# Altium schematic symbol library MuhammetLib.SchLib: 392 symbols (part 2 of 4)
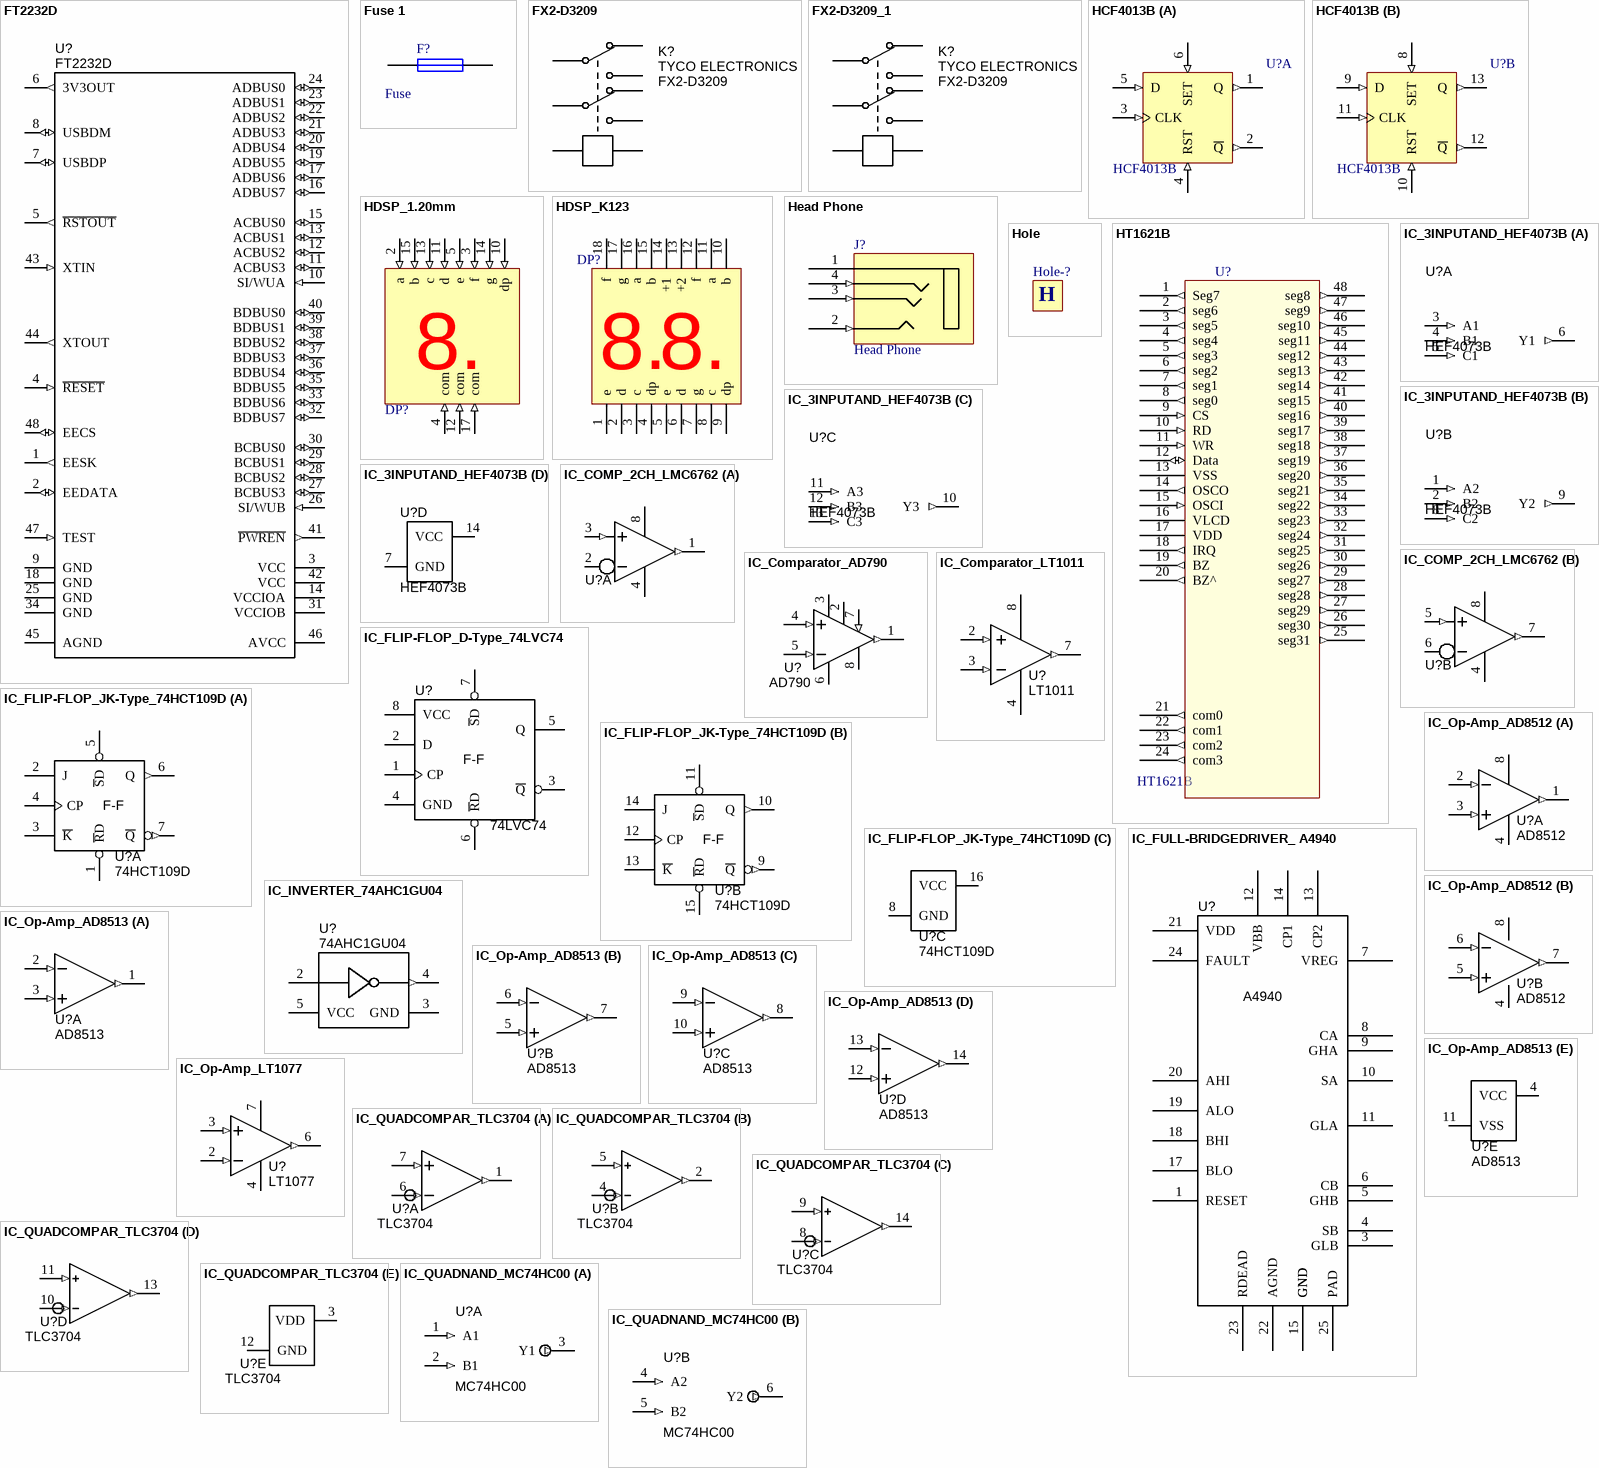
[diagram p13: symbols FT2232D to IC_QUADNAND_MC74HC00]

## IC_FLIP-FLOP_D-Type_74LVC74
designator U?, comment 74LVC74
IC Flip-Flop D-type TSSOP-8 SMD; Manufacturer 1: NXP Semiconductors; Manufacturer Part Number 1: 74LVC2G74DP,125; Value: 74LVC74; Supplier 1: Digi-Key; Supplier Part Number 1: 568-7681-1-ND; Package / Case: 8-TSSOP (0.118", 3.00mm Width)
footprint TSSOP65P400X110-8N (TSSOP, 8 Leads, Body 3.1x3.1mm (max), lead span 4.0mm, Pitch 0.65mm, IPC Medium Density)
pins: 1 CP, 2 D, 3 ~{Q}, 4 GND, 5 Q, 6 ~{R}D, 7 ~{S}D, 8 VCC
text: F-F

## IC_FLIP-FLOP_JK-Type_74HCT109D
designator U?, comment 74HCT109D
IC Flip-Flop JK-type SOIC-16 SMD; Manufacturer 1: NXP Semiconductors; Manufacturer Part Number 1: 74HCT109D,653; Value: 74HCT109D; Package / Case: 16-SOIC (0.154", 3.90mm Width); ComponentLink1URL: http://www.nxp.com/documents/data_sheet/74HC_HCT109_CNV.pdf; ComponentLink1Description: 74HCT109D datasheet; Supplier 1: Digi-Key; Supplier Part Number 1: 568-4577-1-ND
footprint SOIC127P600X175-16AN (SOIC, 1.27mm pitch, 16 pin, Body 9.9x3.90mm)
part A pins: 1 ~{R}D, 2 J, 3 ~{K}, 4 CP, 5 ~{S}D, 6 Q (out), 7 ~{Q} (out)
part B pins: 9 ~{Q} (out), 10 Q (out), 11 ~{S}D, 12 CP, 13 ~{K}, 14 J, 15 ~{R}D
part C pins: 8 GND (power), 16 VCC (power)
part A text: F-F
part B text: F-F

## IC_FULL-BRIDGEDRIVER_ A4940
designator U?, comment A4940
24-pin TSSOP Automotive Full Bridge MOSFET Driver; Manufacturer Part Number 1: A4940KLPTR-T; Manufacturer 1: Allegro Microsystems Inc; Input Type: Non-Inverting; Voltage - Supply: 5.5 V ~ 50 V; Supplier 1: Digi-Key; Package / Case: 24-TSSOP (0.173", 4.40mm Width) Exposed Pad; Supplier Part Number 1: 620-1319-1-ND; ComponentLink1URL: http://www.allegromicro.com/en/Products/Part_Numbers/4940/4940.pdf; ComponentLink1Description: A4940 Datasheet
footprint SOP65P640X110-25N (TSSOP, 24-Leads, Body 7.9x4.5mm (max), Pitch 0.65mm, IPC Medium Density; JEDEC MO-153)
pins: 1 RESET "reset input", 2 GND (power) "ground", 3 GLB "low-side gate drive B", 4 SB "load connection B", 5 GHB "high-side gate drive B", 6 CB "bootstrap capacitor B", 7 VREG "regulated 13V ouput", 8 CA "bootstrap capacitor A", 9 GHA "high-side gate drive A", 10 SA "load connection A", 11 GLA "low-side gate drive A", 12 VBB (power) "main supply", 13 CP2 "pump capacitor", 14 CP1 "pump capacitor", 15 GND (power) "ground", 16 GND (power) "ground", 17 BLO "control input B low side", 18 BHI "control input B high side", 19 ALO "control input A low side", 20 AHI "control input A high side", 21 VDD (power) "logic supply", 22 AGND (power) "ground reference", 23 RDEAD "dead time setting input", 24 FAULT "fault output", 25 PAD (power) "exposed die pad"

## IC_INVERTER_74AHC1GU04
designator U?, comment 74AHC1GU04
IC Inverter SOT353 SMD; Manufacturer 1: NXP Semiconductors; Manufacturer Part Number 1: 74AHC1GU04GW,125; Voltage - Supply: 2 V ~ 5.5 V; Package / Case: 6-TSSOP (5 Lead), SC-88A, SOT-353; ComponentLink1URL: http://www.nxp.com/documents/data_sheet/74AHC1GU04.pdf; ComponentLink1Description: 74AHC1GU04 datasheet; Supplier 1: Digi-Key; Supplier Part Number 1: 568-4825-1-ND
footprint SOT353 (Small outline 2.1mm L x 1.25mm W x 1mm H; 5LD SC-70; SC-88A)
pins: 2 A, 3 GND (power), 4 Y (out), 5 VCC (power)

## IC_Op-Amp_AD8512
designator U?, comment AD8512
IC SMD Low Cost Op Amp SOIC-8; Manufacturer 1: Analog Devices Inc; Manufacturer Part Number 1: AD8512BRZ; Voltage - Supply: 2.7 V ~ 16 V, ±1.35 V ~ 8 V; Package / Case: 8-SOIC (0.154", 3.90mm Width); Supplier 1: Digi-Key; Supplier Part Number 1: AD8512BRZ-ND
footprint SOIC127P600X175-8AN (SOIC, 8-Leads, Body 4.9x3.9mm, Pitch 1.27mm, IPC Medium Density)
pins on every part: 4 V- (power), 8 V+ (power)
part A pins: 1 OUT (out), 2 IN- (in), 3 IN+ (in)
part B pins: 5 IN+ (in), 6 IN- (in), 7 OUT (out)

## IC_Op-Amp_AD8513
designator U?, comment AD8513
IC Op Amp JFET 8MHz Quad TSSOP-14 SMD; Manufacturer 1: Analog Devices Inc; Manufacturer Part Number 1: AD8513ARUZ; Voltage - Supply, Single/Dual (±): ±4.5 V ~ 18 V; Package / Case: 14-TSSOP (0.173", 4.40mm Width); Supplier 1: Digi-Key; Supplier Part Number 1: AD8513ARUZ-ND
footprint TSSOP65P640X120-14N (TSSOP, 14-Leads, Body 5.0x4.5mm (max), Pitch 0.65mm, IPC Medium Density)
part A pins: 1 OUT (out), 2 IN- (in), 3 IN+ (in)
part B pins: 5 IN+ (in), 6 IN- (in), 7 OUT (out)
part C pins: 8 OUT (out), 9 IN- (in), 10 IN+ (in)
part D pins: 12 IN+ (in), 13 IN- (in), 14 OUT (out)
part E pins: 4 VCC (power), 11 VSS (power)

## IC_Op-Amp_LT1077
designator U?, comment LT1077
IC SMD Op Amp Precision Micropower SOIC-8; Manufacturer 1: Linear Technology; Manufacturer Part Number 1: LT1077IS8#PBF; Voltage - Supply: 2.2 V ~ 30 V, ±1.1 V ~ 15 V; Gain Bandwidth Product: 230kHz; Package / Case: 8-SOIC (0.154", 3.90mm Width); Supplier 1: Digi-Key; Supplier Part Number 1: LT1077IS8#PBF-ND
footprint SOIC127P600X175-8AN (SOIC, 8-Leads, Body 4.9x3.9mm, Pitch 1.27mm, IPC Medium Density)
pins: 2 IN- (in), 3 IN+ (in), 4 V- (power), 6 OUT (out), 7 V+ (power)

## IC_QUADCOMPAR_TLC3704
designator U?, comment TLC3704
IC SMD Quad Comparator SOIC-14; Manufacturer 1: Texas Instruments; Manufacturer Part Number 1: TLC3704QDRG4Q1; Voltage - Supply: 2.7 V ~ 16 V, ±1.35 V ~ 8 V; Package / Case: 14-SOIC (0.154", 3.90mm Width); Supplier 1: Digi-Key; Supplier Part Number 1: 296-23711-1-ND
footprint SOIC127P600X175-14AN (SOIC, 1.27mm pitch, 14 pin, Body 8.65x3.90mm)
part A pins: 1 1OUT (out), 6 1IN - (in), 7 1IN + (in)
part B pins: 2 2OUT (out), 4 2IN - (in), 5 2IN + (in)
part C pins: 8 3IN - (in), 9 3IN+ (in), 14 3OUT (out)
part D pins: 10 4IN - (in), 11 4IN + (in), 13 4OUT (out)
part E pins: 3 VDD (power), 12 GND (power)

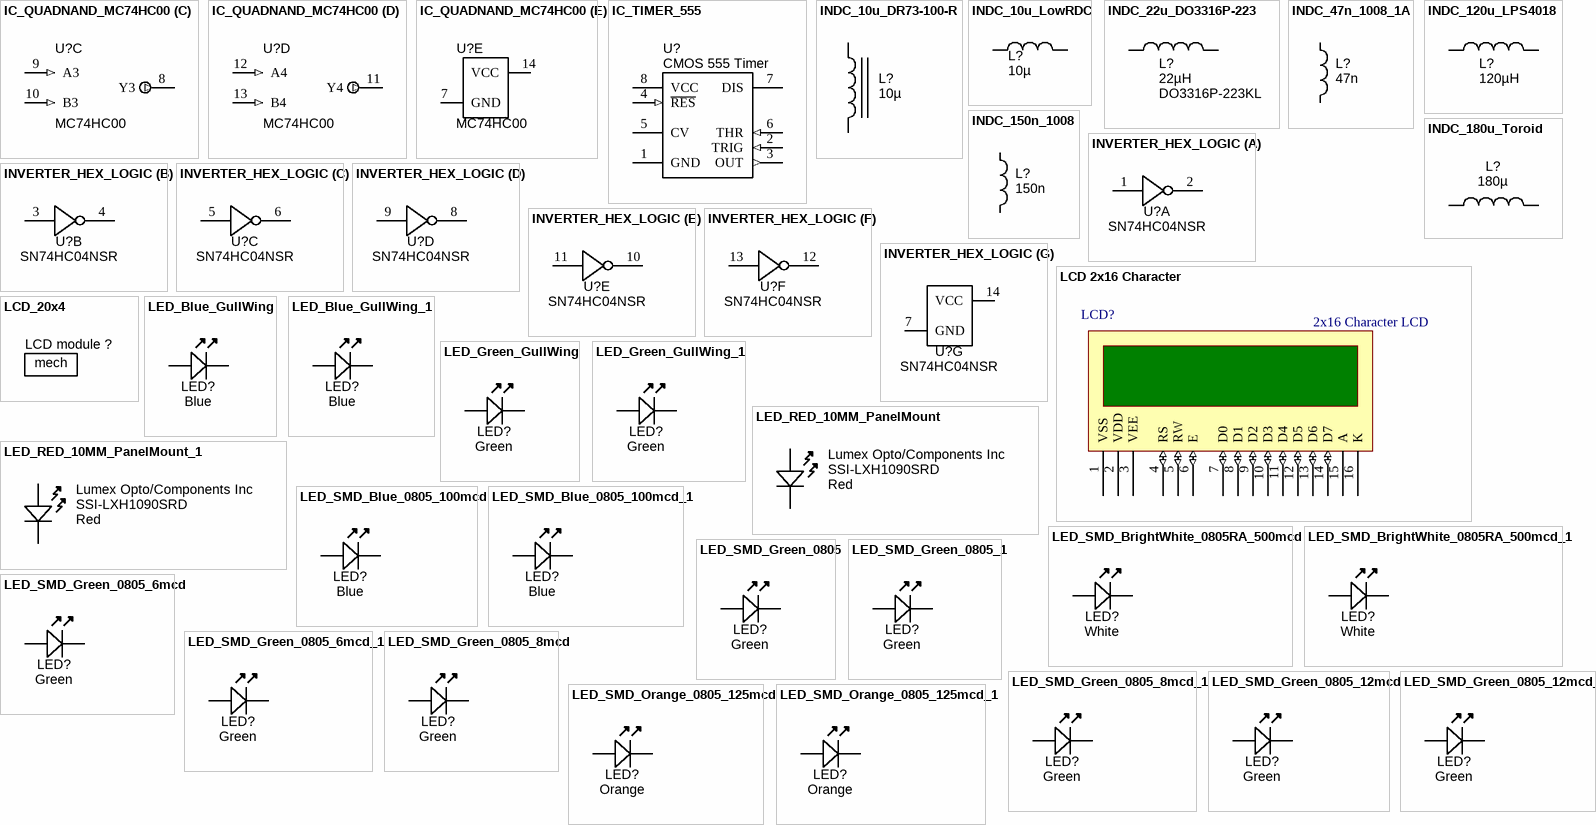
[diagram p3: symbols IC_QUADNAND_MC74HC00 to LED_SMD_Orange_0805_125mcd_1]

## IC_QUADNAND_MC74HC00
designator U?, comment MC74HC00
IC SMD Quad NAND SOIC-14; Manufacturer 1: ON Semiconductor; Manufacturer Part Number 1: MC74HC00ADG; Current - Output High, Low: 5.2mA, 5.2mA; Voltage - Supply: 2 V ~ 6 V; Ratings: -40°C ~ 85°C; 5.2mA; Logic Type: NAND; Mounting Type: Surface Mount; Package / Case: SOIC-14; Supplier 1: Digi-Key; Supplier Part Number 1: MC74HC00ADGOS-ND
footprint SOIC127P600X175-14AN (SOIC, 1.27mm pitch, 14 pin, Body 8.65x3.90mm)
part A pins: 1 A1 (in), 2 B1 (in), 3 Y1 (out)
part B pins: 4 A2 (in), 5 B2 (in), 6 Y2 (out)
part C pins: 8 Y3 (out), 9 A3 (in), 10 B3 (in)
part D pins: 11 Y4 (out), 12 A4 (in), 13 B4 (in)
part E pins: 7 GND (power), 14 VCC (power)

## IC_TIMER_555
designator U?, comment CMOS 555 Timer
IC CMOS 555 Timer SOIC-8 SMD; Manufacturer 1: NXP Semiconductors; Manufacturer Part Number 1: ICM7555CD/01,118; Voltage - Supply: 4.5 - 16; Frequency: 500kHz; Current - Supply: 180µA; Package / Case: 8-SOIC (0.154", 3.90mm Width); Operating Temperature: 0°C ~ 70°C; Supplier 1: Digi-Key; Supplier Part Number 1: 568-1818-1-ND; Type: 555 Type, Timer/Oscillator (Single); Supplier Device Package: 8-SO; Mounting Type: Surface Mount; ComponentLink1URL: http://www.nxp.com/documents/data_sheet/ICM7555.pdf; ComponentLink1Description: http://www.nxp.com/documents/data_sheet/ICM7555.pdf
footprint SOIC127P600X175-8AN (SOIC, 8-Leads, Body 4.9x3.9mm, Pitch 1.27mm, IPC Medium Density)
pins: 1 GND (power), 2 TRIG (in), 3 OUT (out), 4 ~{RES} (in), 5 CV, 6 THR (in), 7 DIS, 8 VCC (power)

## INDC_10u_DR73-100-R
designator L?, comment 10µ
Inductor Power 10µH 2.1A 7.6x7.6mm SMD; Manufacturer 1: Cooper Bussmann; Manufacturer Part Number 1: DR73-100-R; Tolerance: ±20%; Material: ferrite shielded; Package / Case: 5.0x5.0x4.5mm; Ratings: 2.1 A; Supplier 1: Digi-Key; Supplier Part Number 1: 513-1129-1-ND; ComponentLink1URL: http://www.cooperindustries.com/content/dam/public/bussmann/Electronics/Resources/Data%20Sheets/Bus_Elx_DS_4315_DR_Series.pdf; ComponentLink1Description: http://www.cooperindustries.com/content/dam/public/bussmann/Electronics/Resources/Data%20Sheets/Bus_Elx_DS_4315_DR_Series.pdf; Value: 10µ
footprint IND_WW_DR73 (Wire-wound power inductor, Cooper Bussmann DR73 series, IPC Medium Density)
pins: 1, 2

## INDC_10u_LowRDC
designator L?, comment 10µ
Inductor SMD Low DCR 10 µH 900mA 20% 1210; Manufacturer 1: Taiyo Yuden; Manufacturer Part Number 1: CBC3225T100MR; Ratings: 900 mA; 133 mOhm; DC Resistance (DCR): 172.9 mOhm Max; Frequency - Self Resonant: 23MHz; Frequency - Test: 100kHz; Tolerance: ±20%; Supplier 1: Digi-Key; Supplier Part Number 1: 587-1625-1-ND; Current: 900mA; Current - Saturation: 900mA; Current - Temperature Rise: 900mA; Applications: Power Supplies; Package / Case: 1210 (3225 Metric); Operating Temperature: -40°C ~ 105°C; ComponentLink1URL: http://www.yuden.co.jp/ut/product/pdf/wound02_e.pdf; ComponentLink1Description: http://www.yuden.co.jp/ut/product/pdf/wound02_e.pdf; Value: 10µ
footprint INDC3225X250N (Chip Inductor, 2-Leads, Body 3.2x2.5mm, IPC Medium Density)
pins: 1, 2

## INDC_22u_DO3316P-223
designator L?, comment 22µH  Manufacturer Part Number 1: DO3316P-223KL
Inductor Power SMD 22µH; Manufacturer 1: Coilcraft; Ratings: 2.3 Adc; Tolerance: ±10%; Value: 22µ; Package / Case: 12.95x9.4mm
footprint IND_Coilcraft_DO3316P_SM (Wire-wound Power Inductor, 2-Leads, Body 12.95x9.4mm)
pins: 1, 2

## INDC_47n_1008_1A
designator L?, comment 47n
Inductor SMD chip 47nH 1008; Manufacturer 1: Abracon Corporation; Manufacturer Part Number 1: AISC-1008-R047J-T; Ratings: 1 A; Tolerance: ±5%; Material: Ceramic; DC Resistance (DCR): 160 mOhm Max; Package / Case: 1008 (2520 Metric); Supplier 1: Digi-Key; Supplier Part Number 1: 535-10535-1-ND; Value: 47n
footprint INDM2520X190N (Inductor, molded body 2.5x2.0mm)
pins: 1, 2

## INDC_120u_LPS4018
designator L?, comment 120µH
Inductor shielded 120uH 300mA LPS4018 SMD; Manufacturer 1: Coilcraft; Manufacturer Part Number 1: LPS4018-124ML; Ratings: 300 mArms; Tolerance: ±20%; Value: 120µ; Type: Ferrite Core; DC Resistance (DCR): 1.6 Ohm Max; Frequency - Self Resonant: 9MHz; Frequency - Test: 100kHz; Material - Core: Ferrite; Package / Case: LPS4018; Current: 300mA; Supplier 1: Coilcraft; Supplier Part Number 1: LPS4018-124MLC
footprint IND_COILCRAFT_LPS4018 (Shielded Power Inductor, Body 4.0x4.0x1.8mm)
pins: 1, 2

## INDC_150n_1008
designator L?, comment 150n
Inductor SMD chip 150nH 1008; Manufacturer 1: TDK Corporation; Manufacturer Part Number 1: NLV25T-R15J-PF; Ratings: 500 mA; Tolerance: ±5%; Package / Case: 1008 (2520 Metric); Supplier 1: Digi-Key; Supplier Part Number 1: 445-1715-1-ND; Value: 150n
footprint INDM2520X190N (Inductor, molded body 2.5x2.0mm)
pins: 1, 2

## INDC_180u_Toroid
designator L?  value 180µ  (hidden comment: *)
Power Inductor 180µH 10% SMD Toroid; Manufacturer 1: JW Miller A Bourns Company; Manufacturer Part Number 1: PM2110-181K-RC; Ratings: 3.7A; Package / Case: 1.200" L x 1.000" W x 0.530" H; Tolerance: ±10%; Supplier 1: Digi-Key; Supplier Part Number 1: M8769-ND; Current: 3.7A
footprint IND_SMD_TOROID_1.2x1.0in (Inductor, Toroid, 30.5mm L x 25.4mm W x 13.5mm T)
pins: 1, 2

## INVERTER_HEX_LOGIC
designator U?  Manufacturer Part Number 1: SN74HC04NSR  (hidden comment: *)
Inverter IC Logic-level 6 section SOP-14 SMD; Manufacturer 1: Texas Instruments; Current - Output High, Low: 5.2mA, 5.2mA; Voltage - Supply: 2 V ~ 6 V; Ratings: -40°C ~ 85°C; 5.2mA; Supplier 1: Digi-Key; Supplier Part Number 1: 296-12883-1-ND; Logic Type: Inverter; Mounting Type: Surface Mount; Package / Case: SOP-14
footprint SOIC127P780X200-14N (SOIC, 14 Leads, Body 10.5x3.9mm, Pitch 1.27mm, IPC Medium Density)
part A pins: 1 1A, 2 1Y
part B pins: 3 2A, 4 2Y
part C pins: 5 3A, 6 3Y
part D pins: 8 4Y, 9 4A
part E pins: 10 5Y, 11 5A
part F pins: 12 6Y, 13 6A
part G pins: 7 GND, 14 VCC

## LCD 2x16 Character
designator LCD?, comment 2x16 Character LCD
LCD 16x2 Character; Package: SMD; Value: 2x16 Character LCD
footprint LCD Socket (2x20 Character Lcd)
pins: 1 VSS (power), 2 VDD (power), 3 VEE (power), 4 RS (io), 5 RW (io), 6 E (io), 7 D0 (io), 8 D1 (io), 9 D2 (io), 10 D3 (io), 11 D4 (io), 12 D5 (io), 13 D6 (io), 14 D7 (io), 15 A (power), 16 K (power)

## LCD_20x4
designator LCD module ?  (value not drawn)  (mechanical)
LCD character display module 20x4; Manufacturer 1: Microtips Technology; Manufacturer Part Number 1: NMTC-S20400XRGHS; Supplier 1: Mouser; Supplier Part Number 1: 668-NC-S20400XRGHS
text: mech

## LED_Blue_GullWing
designator LED?  Color: Blue  (hidden comment: *)
LED, Gull-wing SMD, High-intensity blue; Manufacturer 1: Ligitek; Manufacturer Part Number 1: LDBK9033/TR1; Ratings: 350 mcd; Package / Case: 4.6mm Gull-Wing
footprint LED_GULL1
pins: A, K

## LED_Blue_GullWing_1
designator LED?  Color: Blue  (hidden comment: *)
LED, Gull-wing SMD, High-intensity blue; Manufacturer 1: Ligitek; Manufacturer Part Number 1: LDBK9033/TR1; Ratings: 350 mcd; Package / Case: 4.6mm Gull-Wing
footprint LED_GULL1
pins: A, K

## LED_Green_GullWing
designator LED?  Color: Green  (hidden comment: *)
LED Gull-wing SMD High-intensity Green 450mcd 574nm; Manufacturer 1: Ligitek; Manufacturer Part Number 1: L8UG9033/TR1; Ratings: 450 mcd; 574 nm; Material: AlGaInP; Package / Case: 4.6mm Gull-Wing
footprint LED_GULL1
pins: A, K

## LED_Green_GullWing_1
designator LED?  Color: Green  (hidden comment: *)
LED Gull-wing SMD High-intensity Green 450mcd 574nm; Manufacturer 1: Ligitek; Manufacturer Part Number 1: L8UG9033/TR1; Ratings: 450 mcd; 574 nm; Material: AlGaInP; Package / Case: 4.6mm Gull-Wing
footprint LED_GULL1
pins: A, K

## LED_RED_10MM_PanelMount
designator LED?, comment Red  Manufacturer 1: Lumex Opto/Components Inc  Manufacturer Part Number 1: SSI-LXH1090SRD
Luminous Flux @ Current - Test: 210 mlm; Current - Test: 20mA; Wavelength - Dominant: 660nm; Millicandela Rating: 250mcd; Voltage - Forward (Vf) Typ: 1.7V; Lens Type: Diffused, Red Tinted; Lens Style/Size: Round, 5mm, T-1 3/4; Viewing Angle: 60°; Description 1: LED 10MM SUPER RED PANEL MOUNT; Shape: Round; Type: LED; RoHS: RoHS Compliant; Category: Optoelectronics; Color: Red; Wavelength - Peak: 660nm; Package / Case: Radial; Mounting Type: Through Hole; Packaging: Bulk; ComponentLink1URL: http://www.lumex.com/specs/SSL-LX5093SRD D.pdf; ComponentLink1Description: http://www.lumex.com/specs/SSL-LX5093SRD D.pdf; Supplier 1: Digi-Key; Supplier Part Number 1: 67-1174-ND; Stock 1: 1425; Pricing 1: 1=0.98, 10=0.78, 50=0.6826, 250=0.585, 1000=0.507 (USD); Lens Color: Red; Panel Cutout Dimensions: 14mm (Round); Voltage: 1.7V; ComponentLink2URL: http://www.lumex.com/specs/SSI-LXH1090SRD.pdf; ComponentLink2Description: http://www.lumex.com/specs/SSI-LXH1090SRD.pdf
pins: A, K

## LED_RED_10MM_PanelMount_1
designator LED?, comment Red  Manufacturer 1: Lumex Opto/Components Inc  Manufacturer Part Number 1: SSI-LXH1090SRD
Luminous Flux @ Current - Test: 210 mlm; Current - Test: 20mA; Wavelength - Dominant: 660nm; Millicandela Rating: 250mcd; Voltage - Forward (Vf) Typ: 1.7V; Lens Type: Diffused, Red Tinted; Lens Style/Size: Round, 5mm, T-1 3/4; Viewing Angle: 60°; Description 1: LED 10MM SUPER RED PANEL MOUNT; Shape: Round; Type: LED; RoHS: RoHS Compliant; Category: Optoelectronics; Color: Red; Wavelength - Peak: 660nm; Package / Case: Radial; Mounting Type: Through Hole; Packaging: Bulk; ComponentLink1URL: http://www.lumex.com/specs/SSL-LX5093SRD D.pdf; ComponentLink1Description: http://www.lumex.com/specs/SSL-LX5093SRD D.pdf; Supplier 1: Digi-Key; Supplier Part Number 1: 67-1174-ND; Stock 1: 1425; Pricing 1: 1=0.98, 10=0.78, 50=0.6826, 250=0.585, 1000=0.507 (USD); Lens Color: Red; Panel Cutout Dimensions: 14mm (Round); Voltage: 1.7V; ComponentLink2URL: http://www.lumex.com/specs/SSI-LXH1090SRD.pdf; ComponentLink2Description: http://www.lumex.com/specs/SSI-LXH1090SRD.pdf
pins: A, K

## LED_SMD_Blue_0805_100mcd
designator LED?, comment Blue
LED 0805 SMD Blue 100mcd 470nm; Manufacturer 1: Ligitek; Manufacturer Part Number 1: LG-170DBKZ-CT; Material: InGaN/GaN; Ratings: 100 mcd; 470 nm; Package / Case: 0805; Value: Blue; Color: Blue
footprint LED-0805-K
pins: A, K

## LED_SMD_Blue_0805_100mcd_1
designator LED?, comment Blue
LED 0805 SMD Blue 100mcd 470nm; Manufacturer 1: Ligitek; Manufacturer Part Number 1: LG-170DBKZ-CT; Material: InGaN/GaN; Ratings: 100 mcd; 470 nm; Package / Case: 0805; Value: Blue; Color: Blue
footprint LED-0805-K
pins: A, K

## LED_SMD_BrightWhite_0805RA_500mcd
designator LED?, comment White
LED 0805 SIDELED SMD Bright White ~500mcd 20mA; Manufacturer 1: Kingbright Corp; Manufacturer Part Number 1: APA2106QWF/G; Material: InGaN; Ratings: ~500 mcd @ 20 mA; Package / Case: 2.1x0.6x1.0mm SIDELED; Value: White; Color: White
footprint LED-0805S-SIDELED-2.1x0.6x1.0 (Lite-On Inc PLCC Side LED)
pins: A, K

## LED_SMD_BrightWhite_0805RA_500mcd_1
designator LED?, comment White
LED 0805 SIDELED SMD Bright White ~500mcd 20mA; Manufacturer 1: Kingbright Corp; Manufacturer Part Number 1: APA2106QWF/G; Material: InGaN; Ratings: ~500 mcd @ 20 mA; Package / Case: 2.1x0.6x1.0mm SIDELED; Value: White; Color: White
footprint LED-0805S-SIDELED-2.1x0.6x1.0 (Lite-On Inc PLCC Side LED)
pins: A, K

## LED_SMD_Green_0805
designator LED?, comment Green
LED, 0805 SMD, Green; Manufacturer 1: Ligitek; Manufacturer Part Number 1: LG170G-CT; Material: GaP; Ratings: 10 mcd; 573 nm; Package / Case: 0805
footprint LED-0805-K
pins: A, K

## LED_SMD_Green_0805_1
designator LED?, comment Green
LED, 0805 SMD, Green; Manufacturer 1: Ligitek; Manufacturer Part Number 1: LG170G-CT; Material: GaP; Ratings: 10 mcd; 573 nm; Package / Case: 0805
footprint LED-0805-K
pins: A, K

## LED_SMD_Green_0805_6mcd
designator LED?  Color: Green
LED, 0805 SMD, Green; Manufacturer 1: LITE-ON; Manufacturer Part Number 1: LTST-C171GKT; Material: GaP; Ratings: 6 mcd; 569 nm; Package / Case: 0805; Supplier 1: Digi-Key; Supplier Part Number 1: 160-1423-1-ND; Value: Green
footprint LED-0805-K
pins: A, K

## LED_SMD_Green_0805_6mcd_1
designator LED?  Color: Green
LED, 0805 SMD, Green; Manufacturer 1: LITE-ON; Manufacturer Part Number 1: LTST-C171GKT; Material: GaP; Ratings: 6 mcd; 569 nm; Package / Case: 0805; Supplier 1: Digi-Key; Supplier Part Number 1: 160-1423-1-ND; Value: Green
footprint LED-0805-K
pins: A, K

## LED_SMD_Green_0805_8mcd
designator LED?, comment Green
LED, 0805 SMD, Green; Manufacturer 1: Ligitek; Manufacturer Part Number 1: LG-170PG-CT; Material: GaP; Ratings: 8 mcd; 558 nm; Package / Case: 0805
footprint LED-0805-K
pins: A, K

## LED_SMD_Green_0805_8mcd_1
designator LED?, comment Green
LED, 0805 SMD, Green; Manufacturer 1: Ligitek; Manufacturer Part Number 1: LG-170PG-CT; Material: GaP; Ratings: 8 mcd; 558 nm; Package / Case: 0805
footprint LED-0805-K
pins: A, K

## LED_SMD_Green_0805_12mcd
designator LED?, comment Green
LED 0805 SMD Green 12mcd 569nm; Manufacturer 1: LITE-ON; Manufacturer Part Number 1: LTST-C171GKT; Material: GaP; Ratings: 12 mcd; 569 nm; Package / Case: 0805; Supplier 1: Digi-Key; Supplier Part Number 1: 160-1423-1-ND; Value: Green; Color: Green
footprint LED-0805-K
pins: A, K

## LED_SMD_Green_0805_12mcd_1
designator LED?, comment Green
LED 0805 SMD Green 12mcd 569nm; Manufacturer 1: LITE-ON; Manufacturer Part Number 1: LTST-C171GKT; Material: GaP; Ratings: 12 mcd; 569 nm; Package / Case: 0805; Supplier 1: Digi-Key; Supplier Part Number 1: 160-1423-1-ND; Value: Green; Color: Green
footprint LED-0805-K
pins: A, K

## LED_SMD_Orange_0805_125mcd
designator LED?, comment Orange
LED, 0805 SMD, Orange; Manufacturer 1: Ligitek; Manufacturer Part Number 1: LG-170-8SEF-CT; Material: AIGaInP; Ratings: 125 mcd; 605 nm; Package / Case: 0805
footprint LED-0805-K
pins: A, K

## LED_SMD_Orange_0805_125mcd_1
designator LED?, comment Orange
LED, 0805 SMD, Orange; Manufacturer 1: Ligitek; Manufacturer Part Number 1: LG-170-8SEF-CT; Material: AIGaInP; Ratings: 125 mcd; 605 nm; Package / Case: 0805
footprint LED-0805-K
pins: A, K

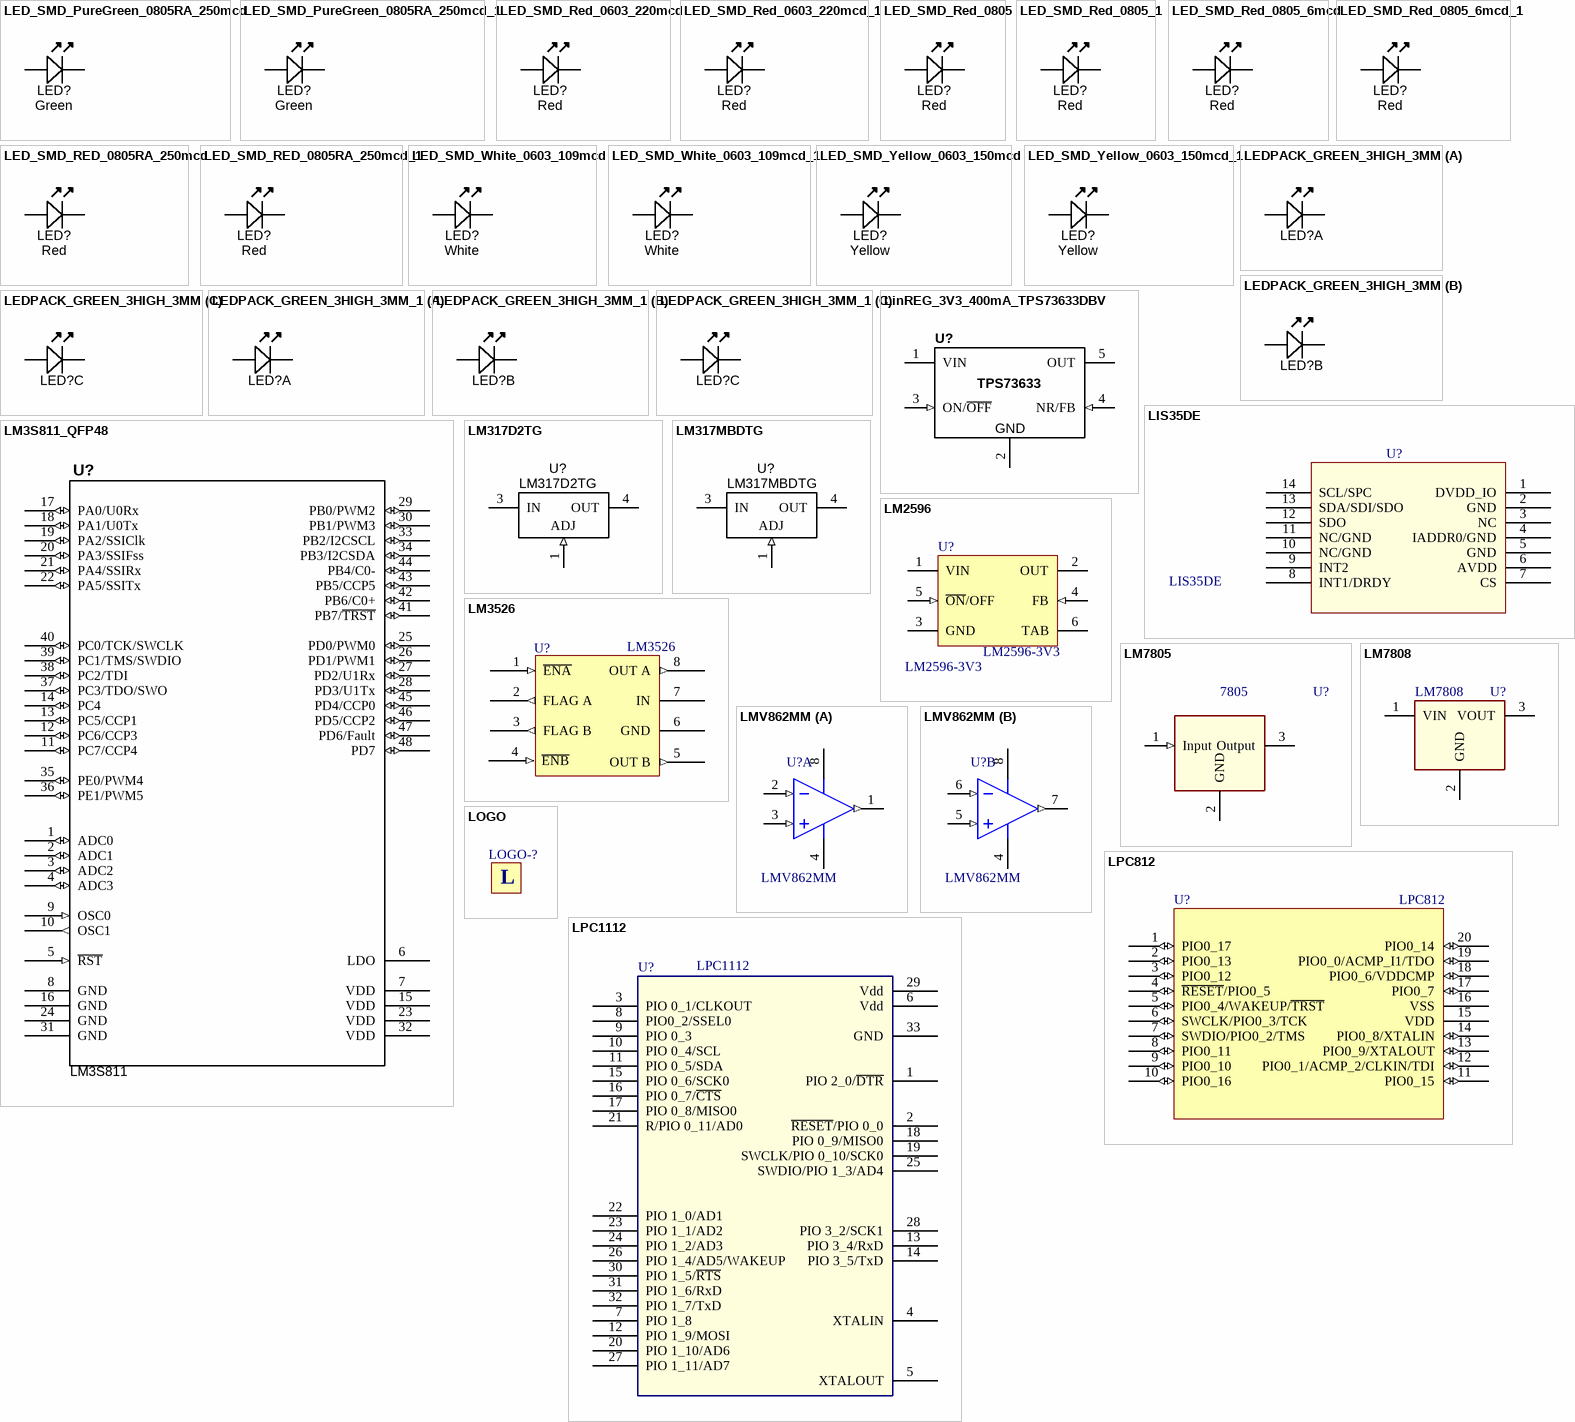
[diagram p4: symbols LED_SMD_PureGreen_0805RA_250mcd to LPC1112]

## LED_SMD_PureGreen_0805RA_250mcd
designator LED?, comment Green
LED 0805 SIDELED SMD Green 250mcd 525nm; Manufacturer 1: Kingbright Corp; Manufacturer Part Number 1: APA2106ZGC; Material: InGaN; Ratings: 250 mcd; 525 nm; Package / Case: 2.1x0.6x1.0mm SIDELED; Value: Green; Supplier 1: Digi-Key; Supplier Part Number 1: 754-1062-1-ND; Color: Green
footprint LED-0805S-SIDELED-2.1x0.6x1.0 (Lite-On Inc PLCC Side LED)
pins: A, K

## LED_SMD_PureGreen_0805RA_250mcd_1
designator LED?, comment Green
LED 0805 SIDELED SMD Green 250mcd 525nm; Manufacturer 1: Kingbright Corp; Manufacturer Part Number 1: APA2106ZGC; Material: InGaN; Ratings: 250 mcd; 525 nm; Package / Case: 2.1x0.6x1.0mm SIDELED; Value: Green; Supplier 1: Digi-Key; Supplier Part Number 1: 754-1062-1-ND; Color: Green
footprint LED-0805S-SIDELED-2.1x0.6x1.0 (Lite-On Inc PLCC Side LED)
pins: A, K

## LED_SMD_Red_0603_220mcd
designator LED?, comment Red
LED 0603 SMD Hyper Red 630nm 220mcd 20mA; Manufacturer 1: Kingbright Corp; Manufacturer Part Number 1: APT1608SURCK; Material: AlGaInP on GaAs; Ratings: 220 mcd; 630 nm; Voltage - Forward (Vf) Typ: 1.95V; Voltage - Forward (Vf) @ 10mA: 1.9V; Package / Case: 0603 (1608 metric); Supplier 1: Digi-Key; Supplier Part Number 1: 754-1123-1-ND
footprint LED-0603-RED
pins: A, K

## LED_SMD_Red_0603_220mcd_1
designator LED?, comment Red
LED 0603 SMD Hyper Red 630nm 220mcd 20mA; Manufacturer 1: Kingbright Corp; Manufacturer Part Number 1: APT1608SURCK; Material: AlGaInP on GaAs; Ratings: 220 mcd; 630 nm; Voltage - Forward (Vf) Typ: 1.95V; Voltage - Forward (Vf) @ 10mA: 1.9V; Package / Case: 0603 (1608 metric); Supplier 1: Digi-Key; Supplier Part Number 1: 754-1123-1-ND
footprint LED-0603-RED
pins: A, K

## LED_SMD_Red_0805
designator LED?, comment Red
LED, 0805 SMD, Red; Manufacturer 1: Ligitek; Manufacturer Part Number 1: LG170SR-CT; Material: GaAIAs; Ratings: 20 mcd; 643 nm; Package / Case: 0805
footprint LED-0805-A
pins: A, K

## LED_SMD_Red_0805_1
designator LED?, comment Red
LED, 0805 SMD, Red; Manufacturer 1: Ligitek; Manufacturer Part Number 1: LG170SR-CT; Material: GaAIAs; Ratings: 20 mcd; 643 nm; Package / Case: 0805
footprint LED-0805-A
pins: A, K

## LED_SMD_Red_0805_6mcd
designator LED?  Color: Red
LED 0805 SMD Red 6mcd 621nm; Manufacturer 1: Lite-On Inc; Manufacturer Part Number 1: LTST-C171EKT; Material: GaAsP on GaP; Ratings: 6 mcd; 621 nm; Package / Case: 0805; Supplier 1: Digi-Key; Supplier Part Number 1: 160-1422-1-ND; Value: Red
footprint LED-0805-K
pins: A, K

## LED_SMD_Red_0805_6mcd_1
designator LED?  Color: Red
LED 0805 SMD Red 6mcd 621nm; Manufacturer 1: Lite-On Inc; Manufacturer Part Number 1: LTST-C171EKT; Material: GaAsP on GaP; Ratings: 6 mcd; 621 nm; Package / Case: 0805; Supplier 1: Digi-Key; Supplier Part Number 1: 160-1422-1-ND; Value: Red
footprint LED-0805-K
pins: A, K

## LED_SMD_RED_0805RA_250mcd
designator LED?, comment Red
LED SMD SIDELED Red 630nm 250mcd 0805; Manufacturer 1: Kingbright Corp; Manufacturer Part Number 1: APA2106SURCK; Material: Al-InGaN; Ratings: 250 mcd; 630 nm; Package / Case: 2.1x0.6x1.0mm SIDELED; Value: Red; Supplier 1: Digi-Key; Supplier Part Number 1: 754-1060-1-ND; Color: Red
footprint LED-0805S-SIDELED-2.1x0.6x1.0 (Lite-On Inc PLCC Side LED)
pins: A, K

## LED_SMD_RED_0805RA_250mcd_1
designator LED?, comment Red
LED SMD SIDELED Red 630nm 250mcd 0805; Manufacturer 1: Kingbright Corp; Manufacturer Part Number 1: APA2106SURCK; Material: Al-InGaN; Ratings: 250 mcd; 630 nm; Package / Case: 2.1x0.6x1.0mm SIDELED; Value: Red; Supplier 1: Digi-Key; Supplier Part Number 1: 754-1060-1-ND; Color: Red
footprint LED-0805S-SIDELED-2.1x0.6x1.0 (Lite-On Inc PLCC Side LED)
pins: A, K

## LED_SMD_White_0603_109mcd
designator LED?, comment White
LED 0603 SMD White 8700K 108.5mcd 5mA; Manufacturer 1: Lite-On Inc; Manufacturer Part Number 1: LTW-C193TS5; Material: InGaN; Ratings: 108.5 mcd; 8700K; Millicandela Rating: 230mcd; Voltage - Forward (Vf) Typ: 3.3V; Current - Test: 20mA; Viewing Angle: 120°; Lens Type: Clear, Tinted; Lens Style/Size: Rectangle with Flat Top, 0.8mm x 1.1mm; Voltage - Forward (Vf) @ 10mA: 3.0V; Package / Case: 0603 (1608 metric); Supplier 1: Digi-Key; Supplier Part Number 1: 160-1721-1-ND; Supplier 2: Digi-Key; Supplier Part Number 2: APT1608QWF/D-ND; Manufacturer 2: Kingbright Corp; Manufacturer Part Number 2: APT1608QWF/D; Color: White; Size / Dimension: 1.60mm L x 0.80mm W; Mounting Type: Surface Mount; Luminous Flux @ Current - Test: -; ComponentLink2URL: http://www.kingbrightusa.com/images/catalog/SPEC/APT1608QWF-D.pdf; ComponentLink2Description: APT1608QWF-D Datasheet
footprint LED-0603-WHITE
pins: A, K

## LED_SMD_White_0603_109mcd_1
designator LED?, comment White
LED 0603 SMD White 8700K 108.5mcd 5mA; Manufacturer 1: Lite-On Inc; Manufacturer Part Number 1: LTW-C193TS5; Material: InGaN; Ratings: 108.5 mcd; 8700K; Millicandela Rating: 230mcd; Voltage - Forward (Vf) Typ: 3.3V; Current - Test: 20mA; Viewing Angle: 120°; Lens Type: Clear, Tinted; Lens Style/Size: Rectangle with Flat Top, 0.8mm x 1.1mm; Voltage - Forward (Vf) @ 10mA: 3.0V; Package / Case: 0603 (1608 metric); Supplier 1: Digi-Key; Supplier Part Number 1: 160-1721-1-ND; Supplier 2: Digi-Key; Supplier Part Number 2: APT1608QWF/D-ND; Manufacturer 2: Kingbright Corp; Manufacturer Part Number 2: APT1608QWF/D; Color: White; Size / Dimension: 1.60mm L x 0.80mm W; Mounting Type: Surface Mount; Luminous Flux @ Current - Test: -; ComponentLink2URL: http://www.kingbrightusa.com/images/catalog/SPEC/APT1608QWF-D.pdf; ComponentLink2Description: APT1608QWF-D Datasheet
footprint LED-0603-WHITE
pins: A, K

## LED_SMD_Yellow_0603_150mcd
designator LED?, comment Yellow
LED 0603 SMD Yellow 590nm 150mcd 20mA; Manufacturer 1: Kingbright Corp; Manufacturer Part Number 1: APT1608SYCK; Material: AlGaInP on GaAs; Ratings: 150 mcd; 590 nm; Voltage - Forward (Vf) Typ: 2V; Voltage - Forward (Vf) @ 10mA: 1.95V; Package / Case: 0603 (1608 metric); Supplier 1: Digi-Key; Supplier Part Number 1: 754-1124-1-ND
footprint LED-0603-YELLOW
pins: A, K

## LED_SMD_Yellow_0603_150mcd_1
designator LED?, comment Yellow
LED 0603 SMD Yellow 590nm 150mcd 20mA; Manufacturer 1: Kingbright Corp; Manufacturer Part Number 1: APT1608SYCK; Material: AlGaInP on GaAs; Ratings: 150 mcd; 590 nm; Voltage - Forward (Vf) Typ: 2V; Voltage - Forward (Vf) @ 10mA: 1.95V; Package / Case: 0603 (1608 metric); Supplier 1: Digi-Key; Supplier Part Number 1: 754-1124-1-ND
footprint LED-0603-YELLOW
pins: A, K

## LEDPACK_GREEN_3HIGH_3MM
designator LED?, comment Power status  (value not drawn)
LED array PCB mount 3-high 3mm green; Manufacturer 1: Dialight; Manufacturer Part Number 1: 564-0100-222F; Ratings: 10mcd; 20mA; Voltge Rating: 2.1V; Wavelength - Peak: 585nm; Viewing Angle: 60°; Package / Case: 3-high LED bar; Supplier 1: Digi-Key; Supplier Part Number 1: 350-1752-ND; ComponentLink2URL: http://www.dialight.com/Assets/Brochures_And_Catalogs/Indication/564-0x00-xxx.pdf; ComponentLink2Description: http://www.dialight.com/Assets/Brochures_And_Catalogs/Indication/564-0x00-xxx.pdf; Color: Green; Value: Green
footprint LED_3-HIGH_3MM (LED Circuit Board Indicator Tri-Level)
part A pins: A1, K1
part B pins: A2, K2
part C pins: A3, K3

## LEDPACK_GREEN_3HIGH_3MM_1
designator LED?, comment Power status  (value not drawn)
LED array PCB mount 3-high 3mm green; Manufacturer 1: Dialight; Manufacturer Part Number 1: 564-0100-222F; Ratings: 10mcd; 20mA; Voltge Rating: 2.1V; Wavelength - Peak: 585nm; Viewing Angle: 60°; Package / Case: 3-high LED bar; Supplier 1: Digi-Key; Supplier Part Number 1: 350-1752-ND; ComponentLink2URL: http://www.dialight.com/Assets/Brochures_And_Catalogs/Indication/564-0x00-xxx.pdf; ComponentLink2Description: http://www.dialight.com/Assets/Brochures_And_Catalogs/Indication/564-0x00-xxx.pdf; Color: Green; Value: Green
footprint LED_3-HIGH_3MM (LED Circuit Board Indicator Tri-Level)
part A pins: A1, K1
part B pins: A2, K2
part C pins: A3, K3

## LinREG_3V3_400mA_TPS73633DBV
designator U?, comment 3.3V  (value not drawn)
IC LDO Regulator 3.3V 400mA SOT23-5 SMD; Manufacturer 1: Texas Instruments; Manufacturer Part Number 1: TPS73633DBVT; Voltage Regulator Type: Switching Buck; Tolerance: ±0.5%; Ratings: 5.5Vin Max; Value: 3.3V; 400mA; Regulator Topology: Positive Fixed; Voltage - Input: 3.5V to 5.5V; Voltage - Dropout (Typical): 0.075V @ 400mA; Current - Output: 400mA (Max); Package / Case: SOT23-5; Supplier 1: Digi-Key; Supplier Part Number 1: 296-15819-1-ND; Voltage - Output: 3.3V; Current - Limit (Min): 400mA; ComponentLink1URL: http://www.ti.com/lit/ds/symlink/tps73601.pdf; ComponentLink1Description: http://www.ti.com/lit/ds/symlink/tps73601.pdf
footprint SOT23-5
pins: 1 VIN (power), 2 GND (power), 3 ON/~{OFF} (in), 4 NR/FB (in), 5 OUT (power)
text: TPS73633

## LIS35DE
designator U?
3 eksen Acceloremeter; ComponentLink2Description: SMD; Value: LIS35DE
footprint LGA14
pins: 1 DVDD_IO, 2 GND, 3 NC, 4 IADDR0/GND, 5 GND, 6 AVDD, 7 CS, 8 INT1/DRDY, 9 INT2, 10 NC/GND, 11 NC/GND, 12 SDO, 13 SDA/SDI/SDO, 14 SCL/SPC

## LM3S811_QFP48
designator U?, comment LM3S811
IC ARM Cortex Microcontroller 64KB flash LQFP-48 SMD; Manufacturer 1: Texas Instruments; Manufacturer Part Number 1: LM3S811-IQN50-C2; Core Processor: ARM® Cortex-M3™; Core Size: 32-Bit; Speed: 50MHz; Connectivity: I²C, Microwire, SPI, SSI, UART/USART; Peripherals: Brown-out Detect/Reset, POR, PWM, WDT; Number of I /O: 32; Program Memory Size: 64KB (64K x 8); RAM Size: 8K x 8; Voltage - Supply (Vcc/Vdd): 3 V ~ 3.6 V; Data Converters: A/D 4x10b; Oscillator Type: Internal; Rule: UNIONINDEX{}0[]SOLDERMASKEXPANSIONMODE{}None[]PASTEMASKEXPANSIONMODE{}None[]RULEKIND{}Clearance[]NETSCOPE{}DifferentNets[]LAYERKIND{}SameLayer[]NAME{}Schematic Clearance Constraint[]GAP{}7.874mil[]UNIT{}Metric[]PcbType{}ProtelPcb; Supplier 1: Digi-Key; Supplier Part Number 1: 296-24918-ND; Program Memory Type: FLASH; EEPROM Size: -; Operating Temperature: -40°C ~ 85°C; Package / Case: 48-LQFP; ComponentLink1URL: http://www.ti.com/lit/ds/symlink/lm3s811.pdf; ComponentLink1Description: http://www.ti.com/lit/ds/symlink/lm3s811.pdf
footprint LQFP-48_N (Thin QFP, 48-Leads, Body 7x7mm, Pitch 0.5mm, IPC Medium Density)
pins: 1 ADC0 (io), 2 ADC1 (io), 3 ADC2 (io), 4 ADC3 (io), 5 ~{RST} (in), 6 LDO, 7 VDD (power), 8 GND (power), 9 OSC0 (in), 10 OSC1 (out), 11 PC7/CCP4 (io), 12 PC6/CCP3 (io), 13 PC5/CCP1 (io), 14 PC4 (io), 15 VDD (power), 16 GND (power), 17 PA0/U0Rx (io), 18 PA1/U0Tx (io), 19 PA2/SSIClk (io), 20 PA3/SSIFss (io), 21 PA4/SSIRx (io), 22 PA5/SSITx (io), 23 VDD (power), 24 GND (power), 25 PD0/PWM0 (io), 26 PD1/PWM1 (io), 27 PD2/U1Rx (io), 28 PD3/U1Tx (io), 29 PB0/PWM2 (io), 30 PB1/PWM3 (io), 31 GND (power), 32 VDD (power), 33 PB2/I2CSCL (io), 34 PB3/I2CSDA (io), 35 PE0/PWM4 (io), 36 PE1/PWM5 (io), 37 PC3/TDO/SWO (io), 38 PC2/TDI (io), 39 PC1/TMS/SWDIO (io), 40 PC0/TCK/SWCLK (io), 41 PB7/~{TRST} (io), 42 PB6/C0+ (io), 43 PB5/CCP5 (io), 44 PB4/C0- (io), 45 PD4/CCP0 (io), 46 PD5/CCP2 (io), 47 PD6/Fault (io), 48 PD7 (io)

## LM317D2TG
designator U?, comment Manufacturer Part Number 1: LM317D2TG  (hidden comment: Adjustable)
Voltage Regulator IC, D2PAK SMD, LM317D2TG; Manufacturer 1: ON Semiconductor; Voltage Regulator Type: Adjustable Positive Linear; Tolerance: 0.04%; Ratings: 40V; 1.5A; Value: variable; Package / Case: D2PAK; Supplier 1: Digi-Key; Supplier Part Number 1: LM317D2TGOS-ND
footprint D2PAK-3 (D-PAK/TO-263-3; 3 Leads (1 Cropped); Body 14.7 (inc. leads) x 10.2 mm (LxW max))
pins: 1 ADJ (in), 3 IN (power), 4 OUT (power)

## LM317MBDTG
designator U?, comment Manufacturer Part Number 1: LM317MBDTG  (hidden comment: Adjustable)
Voltage Regulator IC, DPAK SMD, LM317MBDTG; Manufacturer 1: ON Semiconductor; Voltage Regulator Type: Adjustable Positive Linear; Tolerance: 0.04%; Ratings: 40V in-out; 500mA; Value: variable; Package / Case: DPAK/TO-252; Supplier 1: Digi-Key; Supplier Part Number 1: LM317MBDTGOS-ND
footprint TO-252 (D-PAK/TO-252-AA; 3 Leads (1 Cropped); Body 10.3 (inc. leads) x 6.7 mm (LxW max))
pins: 1 ADJ (in), 3 IN (power), 4 OUT (power)

## LM2596
designator U?, comment LM2596-3V3
SIMPLE SWITCHER® Power Converter 150 KHz 3A Step-Down Voltage Regulator, 5-pin TO-263, Pb-FreeSIMPLE SWITCHER® Power Converter 150 KHz 3A Step-Down Voltage Regulator, 5-pin TO-263, Pb-Free; Value: LM2596-3V3
footprint TO-263_MD (D2-PAK, 6-Leads, Body 8.6x10.2mm, Pitch 1.7mm, Lead Span 14.1mm, IPC Medium Density)
pins: 1 VIN (power), 2 OUT (power), 3 GND (power), 4 FB (in), 5 ~{ON}/OFF (in), 6 TAB (power)

## LM3526
designator U?
Dual Port USB Power Switch and Over-Current Protection; Value: LM3526; SMD: ComponentLink2Description
footprint SOIC8 (SOIC, 8-Leads, Body 5,0x4,0mm (max), Pitch 1,27mm, IPC Low Density)
pins: 1 ~{ENA} (in), 2 FLAG A (out), 3 FLAG B (out), 4 ~{ENB} (in), 5 OUT B (out), 6 GND (power), 7 IN, 8 OUT A (out)

## LM7805
designator U?, comment 7805
7805 regulator; Producer: National; ComponentLink2Description: AX; Value: 7805
footprint TO220
pins: 1 Input (in), 2 GND (power), 3 Output (power)

## LM7808
designator U?
8V Linear Regulator; Value: LM7808; ComponentLink2Description: SMD; ComponentLink3Description: *
footprint TO220 - yatik
pins: 1 VIN (power), 2 GND (power), 3 VOUT

## LMV862MM
designator U?
Dual 30 MHz Low Power CMOS, EMI Hardened Operational Amplifiers; Manufacturer: National Semiconductor; PackageTopMarking: ZXTT*AJ5A; PowerWise: Y; Published: 4-Dec-2008; DatasheetVersion: Jul-2008; PackageVersion: revF, Apr-2008; PackageReference: MUA08A; Publisher: Altium Limited; PackageDescription: MINI SOIC, .118 x .118 x .034in, 8 Lead, .0256in Pitch; CompType: Amplifiers; PartNumber: LMV862MM; RoHS: Y; PinCount: 8; DigiKeyPartNumber: LMV862MMCT-ND; Code_JEDEC: MO-187-AA; ComponentLink1Description: LMV862 Datasheet; ComponentLink1URL: http://www.national.com/ds/LM/LMV862.pdf; ComponentLink2Description: LMV862 Web Page; ComponentLink2URL: http://www.national.com/pf/LM/LMV862.html; ComponentLink3Description: MUA08A Package Page; ComponentLink3URL: http://www.national.com/packaging/folders/mua08a.html; ComponentLink2Description: SMD; Value: LMV862MM
footprint MUA08A_N (TSOP, 8-Leads, Body 3x3mm, Pitch 0.65mm, IPC Medium Density)
footprint MUA08A_L (TSOP, 8-Leads, Body 3x3mm, Pitch 0.65mm, IPC High Density)
footprint MUA08A_M (TSOP, 8-Leads, Body 3x3mm, Pitch 0.65mm, IPC Low Density)
pins on every part: 4 V- (power), 8 V+ (power)
part A pins: 1 OUTA (out), 2 INA- (in), 3 INA+ (in)
part B pins: 5 INB+ (in), 6 INB- (in), 7 OUTB (out)

## LOGO
designator LOGO-?  (value not drawn)  (no BOM)
Value: LOGO
footprint TEM_LOGO (TemLogo)
text: L

## LPC812
designator U?
NXP 32bit Cortex-M0+ MCU; Value: LPC812; ComponentLink2Description: SMD
footprint SOIC127P1030X265-20M (SOIC, 20-Leads, Body 12,80x7,50mm, Pitch 1,27mm, IPC Low Density)
footprint TSOP20 (TSOP, 20-Leads, Body 6,6x4,5mm (max), Pitch 0,65mm, IPC Medium Density)
pins: 1 PIO0_17 (io), 2 PIO0_13 (io), 3 PIO0_12 (io), 4 ~{RESET}/PIO0_5 (io), 5 PIO0_4/WAKEUP/~{TRST} (io), 6 SWCLK/PIO0_3/TCK (io), 7 SWDIO/PIO0_2/TMS (io), 8 PIO0_11 (io), 9 PIO0_10 (io), 10 PIO0_16 (io), 11 PIO0_15 (io), 12 PIO0_1/ACMP_2/CLKIN/TDI (io), 13 PIO0_9/XTALOUT (io), 14 PIO0_8/XTALIN (io), 15 VDD (power), 16 VSS (power), 17 PIO0_7 (io), 18 PIO0_6/VDDCMP (io), 19 PIO0_0/ACMP_I1/TDO (io), 20 PIO0_14 (io)

## LPC1112
designator U?
32 bit Cortex M0 Microcontroller; Producer: NXP; ComponentLink2Description: SMD; Value: LPC1112
pins: 1 PIO 2_0/~{DTR} (power), 2 ~{RESET}/PIO 0_0 (power), 3 PIO 0_1/CLKOUT, 4 XTALIN, 5 XTALOUT (power), 6 Vdd (power), 7 PIO 1_8, 8 PIO0_2/SSEL0, 9 PIO 0_3, 10 PIO 0_4/SCL, 11 PIO 0_5/SDA, 12 PIO 1_9/MOSI, 13 PIO 3_4/RxD, 14 PIO 3_5/TxD, 15 PIO 0_6/SCK0, 16 PIO 0_7/~{CTS}, 17 PIO 0_8/MISO0 (power), 18 PIO 0_9/MISO0 (power), 19 SWCLK/PIO 0_10/SCK0, 20 PIO 1_10/AD6, 21 R/PIO 0_11/AD0, 22 PIO 1_0/AD1, 23 PIO 1_1/AD2, 24 PIO 1_2/AD3, 25 SWDIO/PIO 1_3/AD4, 26 PIO 1_4/AD5/WAKEUP, 27 PIO 1_11/AD7, 28 PIO 3_2/SCK1, 29 Vdd (power), 30 PIO 1_5/~{RTS}, 31 PIO 1_6/RxD, 32 PIO 1_7/TxD, 33 GND (power)

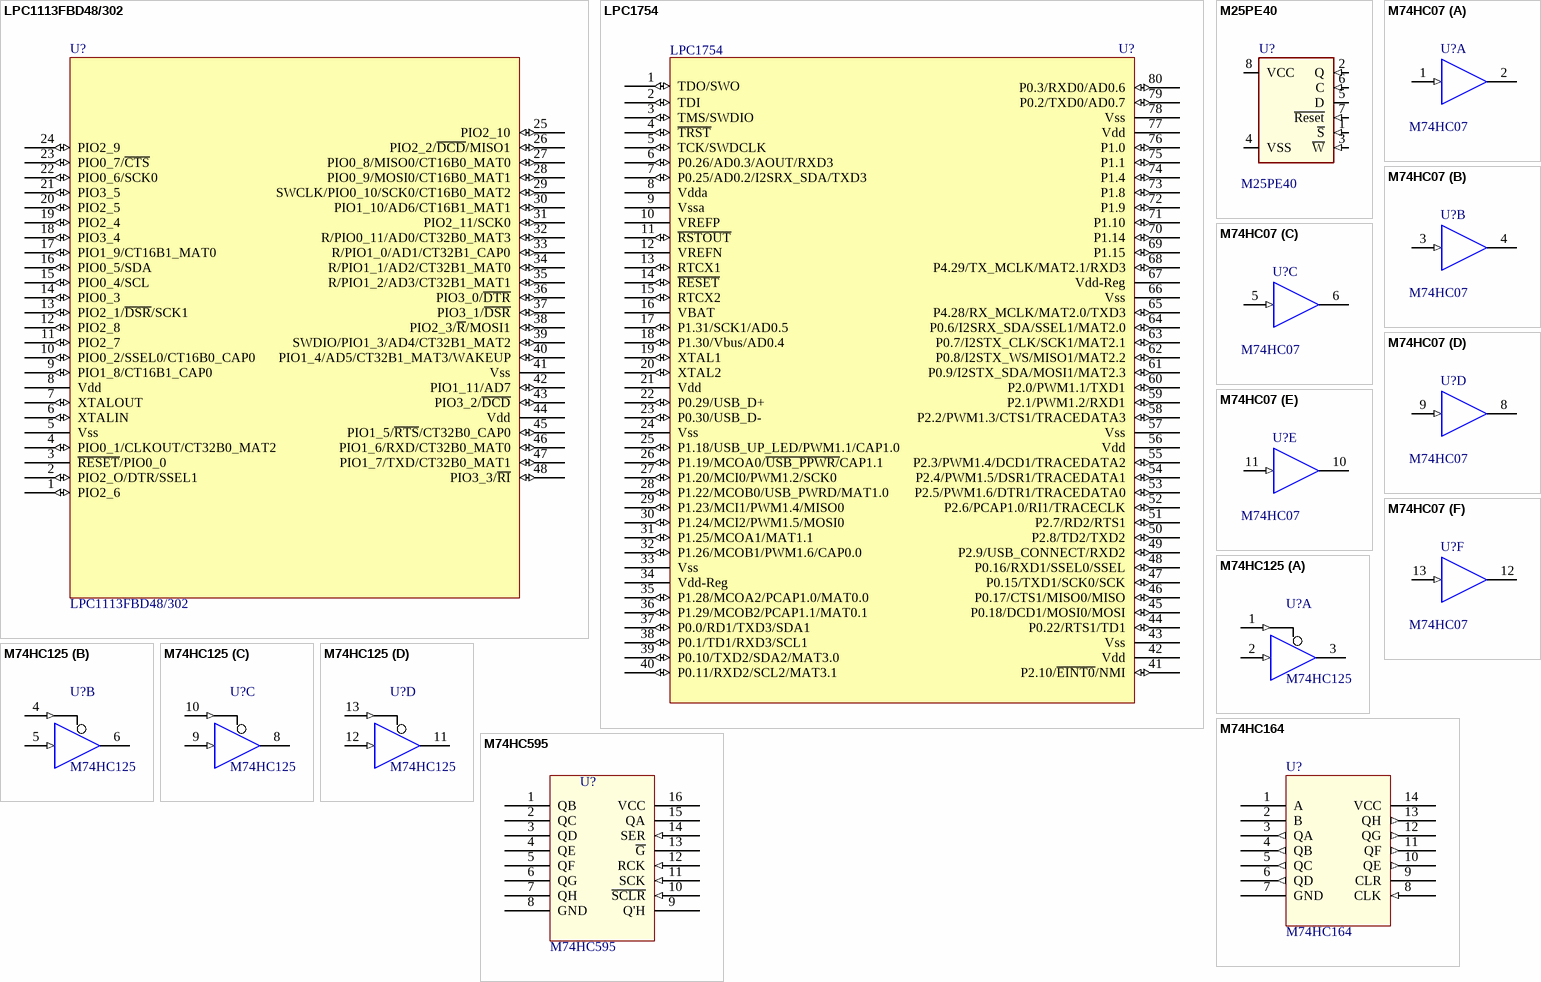
[diagram p5: symbols LPC1113FBD48/302 to M74HC595]

## LPC1113FBD48/302
designator U?
NXP 32bit ARM Cortex M0 MCU; Value: LPC1113FBD48/302; ComponentLink2Description: SMD; ComponentLink3Description: *
footprint LQFP48 (LQFP, 48-Leads, Body 9,1x9,1mm (max), Pitch 0,50mm, IPC Medium Density)
pins: 1 PIO2_6 (io), 2 PIO2_O/DTR/SSEL1 (io), 3 ~{RESET}/PIO0_0, 4 PIO0_1/CLKOUT/CT32B0_MAT2 (io), 5 Vss (power), 6 XTALIN (io), 7 XTALOUT (io), 8 Vdd (power), 9 PIO1_8/CT16B1_CAP0 (io), 10 PIO0_2/SSEL0/CT16B0_CAP0 (io), 11 PIO2_7 (io), 12 PIO2_8 (io), 13 PIO2_1/~{DSR}/SCK1 (io), 14 PIO0_3 (io), 15 PIO0_4/SCL (io), 16 PIO0_5/SDA (io), 17 PIO1_9/CT16B1_MAT0 (io), 18 PIO3_4 (io), 19 PIO2_4 (io), 20 PIO2_5 (io), 21 PIO3_5 (io), 22 PIO0_6/SCK0 (io), 23 PIO0_7/~{CTS} (io), 24 PIO2_9 (io), 25 PIO2_10 (io), 26 PIO2_2/~{DCD}/MISO1 (io), 27 PIO0_8/MISO0/CT16B0_MAT0 (io), 28 PIO0_9/MOSI0/CT16B0_MAT1 (io), 29 SWCLK/PIO0_10/SCK0/CT16B0_MAT2 (io), 30 PIO1_10/AD6/CT16B1_MAT1 (io), 31 PIO2_11/SCK0 (io), 32 R/PIO0_11/AD0/CT32B0_MAT3 (io), 33 R/PIO1_0/AD1/CT32B1_CAP0 (io), 34 R/PIO1_1/AD2/CT32B1_MAT0 (io), 35 R/PIO1_2/AD3/CT32B1_MAT1 (io), 36 PIO3_0/~{DTR} (io), 37 PIO3_1/~{DSR} (io), 38 PIO2_3/~{R}/MOSI1 (io), 39 SWDIO/PIO1_3/AD4/CT32B1_MAT2 (io), 40 PIO1_4/AD5/CT32B1_MAT3/WAKEUP (io), 41 Vss (power), 42 PIO1_11/AD7 (io), 43 PIO3_2/~{DCD} (io), 44 Vdd (power), 45 PIO1_5/~{RTS}/CT32B0_CAP0 (io), 46 PIO1_6/RXD/CT32B0_MAT0 (io), 47 PIO1_7/TXD/CT32B0_MAT1 (io), 48 PIO3_3/~{RI} (io)

## LPC1754
designator U?
NXP 32bit Cortex-M3; Value: LPC1754; ComponentLink2Description: SMD
footprint LQFP80 (LQFP, 80-Leads, Body 12,00x12,00mm, Pitch 0,50mm, IPC Medium Density)
pins: 1 TDO/SWO (io), 2 TDI (io), 3 TMS/SWDIO (io), 4 ~{TRST} (io), 5 TCK/SWDCLK (io), 6 P0.26/AD0.3/AOUT/RXD3 (io), 7 P0.25/AD0.2/I2SRX_SDA/TXD3 (io), 8 Vdda, 9 Vssa (power), 10 VREFP (power), 11 ~{RSTOUT} (io), 12 VREFN (power), 13 RTCX1 (io), 14 ~{RESET} (io), 15 RTCX2 (io), 16 VBAT (power), 17 P1.31/SCK1/AD0.5 (io), 18 P1.30/Vbus/AD0.4 (io), 19 XTAL1 (io), 20 XTAL2 (io), 21 Vdd (power), 22 P0.29/USB_D+ (io), 23 P0.30/USB_D- (io), 24 Vss (power), 25 P1.18/USB_UP_LED/PWM1.1/CAP1.0 (io), 26 P1.19/MCOA0/~{USB_PPWR/}CAP1.1 (io), 27 P1.20/MCI0/PWM1.2/SCK0 (io), 28 P1.22/MCOB0/USB_PWRD/MAT1.0 (io), 29 P1.23/MCI1/PWM1.4/MISO0 (io), 30 P1.24/MCI2/PWM1.5/MOSI0 (io), 31 P1.25/MCOA1/MAT1.1 (io), 32 P1.26/MCOB1/PWM1.6/CAP0.0 (io), 33 Vss (power), 34 Vdd-Reg (power), 35 P1.28/MCOA2/PCAP1.0/MAT0.0 (io), 36 P1.29/MCOB2/PCAP1.1/MAT0.1 (io), 37 P0.0/RD1/TXD3/SDA1 (io), 38 P0.1/TD1/RXD3/SCL1 (io), 39 P0.10/TXD2/SDA2/MAT3.0 (io), 40 P0.11/RXD2/SCL2/MAT3.1 (io), 41 P2.10/~{EINT0}/NMI (io), 42 Vdd (power), 43 Vss (power), 44 P0.22/RTS1/TD1 (io), 45 P0.18/DCD1/MOSI0/MOSI (io), 46 P0.17/CTS1/MISO0/MISO (io), 47 P0.15/TXD1/SCK0/SCK (io), 48 P0.16/RXD1/SSEL0/SSEL (io), 49 P2.9/USB_CONNECT/RXD2 (io), 50 P2.8/TD2/TXD2 (io), 51 P2.7/RD2/RTS1 (io), 52 P2.6/PCAP1.0/RI1/TRACECLK (io), 53 P2.5/PWM1.6/DTR1/TRACEDATA0 (io), 54 P2.4/PWM1.5/DSR1/TRACEDATA1 (io), 55 P2.3/PWM1.4/DCD1/TRACEDATA2 (io), 56 Vdd (power), 57 Vss (power), 58 P2.2/PWM1.3/CTS1/TRACEDATA3 (io), 59 P2.1/PWM1.2/RXD1 (io), 60 P2.0/PWM1.1/TXD1 (io), 61 P0.9/I2STX_SDA/MOSI1/MAT2.3 (io), 62 P0.8/I2STX_WS/MISO1/MAT2.2 (io), 63 P0.7/I2STX_CLK/SCK1/MAT2.1 (io), 64 P0.6/I2SRX_SDA/SSEL1/MAT2.0 (io), 65 P4.28/RX_MCLK/MAT2.0/TXD3 (io), 66 Vss (power), 67 Vdd-Reg (power), 68 P4.29/TX_MCLK/MAT2.1/RXD3 (io), 69 P1.15 (io), 70 P1.14 (io), 71 P1.10 (io), 72 P1.9 (io), 73 P1.8 (io), 74 P1.4 (io), 75 P1.1 (io), 76 P1.0 (io), 77 Vdd (power), 78 Vss (power), 79 P0.2/TXD0/AD0.7 (io), 80 P0.3/RXD0/AD0.6 (io)

## M25PE40
designator U?
Serial SPI 4Mbit Flash; Producer: Numonyx; ComponentLink2Description: SMD; Value: M25PE40
footprint SOIC8W (SOIC, 8-Leads, Body 6,1x6,2mm (max), Pitch 1,27mm, IPC Low Density)
pins: 1 ~{S} (in), 2 Q (in), 3 ~{W} (in), 4 VSS (power), 5 D (io), 6 C (in), 7 ~{Reset} (in), 8 VCC (power)

## M74HC07
designator U?
Hex Buffer (Open Drain); PackageReference: SO14; PackageDescription: 14-Pin Small Outline Integrated Circuit 1.27 mm Pitch; Code_IPC: SOIC127P600-14; ComponentLink1Description: Manufacturer Link; ComponentLink1URL: http://www.st.com/; ComponentLink2Description: SMD; Value: M74HC07
3D model SO14 (PCB3D Model)
signal-integrity model M74HC07M1R
footprint SOIC14 (SOIC, 14-Leads, Body 8,8x4,0mm (max), Pitch 1,27mm, IPC Low Density)
pins on every part: 7 GND (power) hidden to GND, 14 VCC (power) hidden to VCC
part A pins: 1 A (in), 2 Y (oc)
part B pins: 3 A (in), 4 Y (oc)
part C pins: 5 A (in), 6 Y (oc)
part D pins: 8 Y (oc), 9 A (in)
part E pins: 10 Y (oc), 11 A (in)
part F pins: 12 Y (oc), 13 A (in)

## M74HC125
designator U?
Quad Bus Buffer (3-State); Producer: ST; ComponentLink2Description: SMD; Value: M74HC125
3D model SO14 (PCB3D Model)
signal-integrity model M74HC125C1R
footprint SOIC14 (SOIC, 14-Leads, Body 8,8x4,0mm (max), Pitch 1,27mm, IPC Low Density)
pins on every part: 7 GND (power) hidden to GND, 14 VCC (power) hidden to VCC
part A pins: 1 ~{OE} (in), 2 A (in), 3 Y (hiz)
part B pins: 4 ~{OE} (in), 5 A (in), 6 Y (hiz)
part C pins: 8 Y (hiz), 9 A (in), 10 ~{OE} (in)
part D pins: 11 Y (hiz), 12 A (in), 13 ~{OE} (in)

## M74HC164
designator U?
8-Bit Serial-In, Parallel-Out Shift Register; ComponentLink2Description: SMD; Value: M74HC164
footprint SOIC14 (SOIC, 14-Leads, Body 8,8x4,0mm (max), Pitch 1,27mm, IPC Low Density)
pins: 1 A, 2 B, 3 QA (out), 4 QB (out), 5 QC (out), 6 QD (out), 7 GND (power), 8 CLK (in), 9 CLR, 10 QE (out), 11 QF (out), 12 QG (out), 13 QH (out), 14 VCC (power)

## M74HC595
designator U?
8-bit serial-in, serial or parallel-out shift register with output; ComponentLink2Description: SMD; Value: M74HC595
footprint SOIC16 (SOIC, 16-Leads, Body 10,0x4,0mm (max), Pitch 1,27mm, IPC Low Density)
pins: 1 QB, 2 QC, 3 QD, 4 QE, 5 QF, 6 QG (power), 7 QH, 8 GND (power), 9 Q'H, 10 ~{SCLR} (in) "\S\C\L\R", 11 SCK (in), 12 RCK (in), 13 ~{G} (power), 14 SER (in), 15 QA, 16 VCC (power)

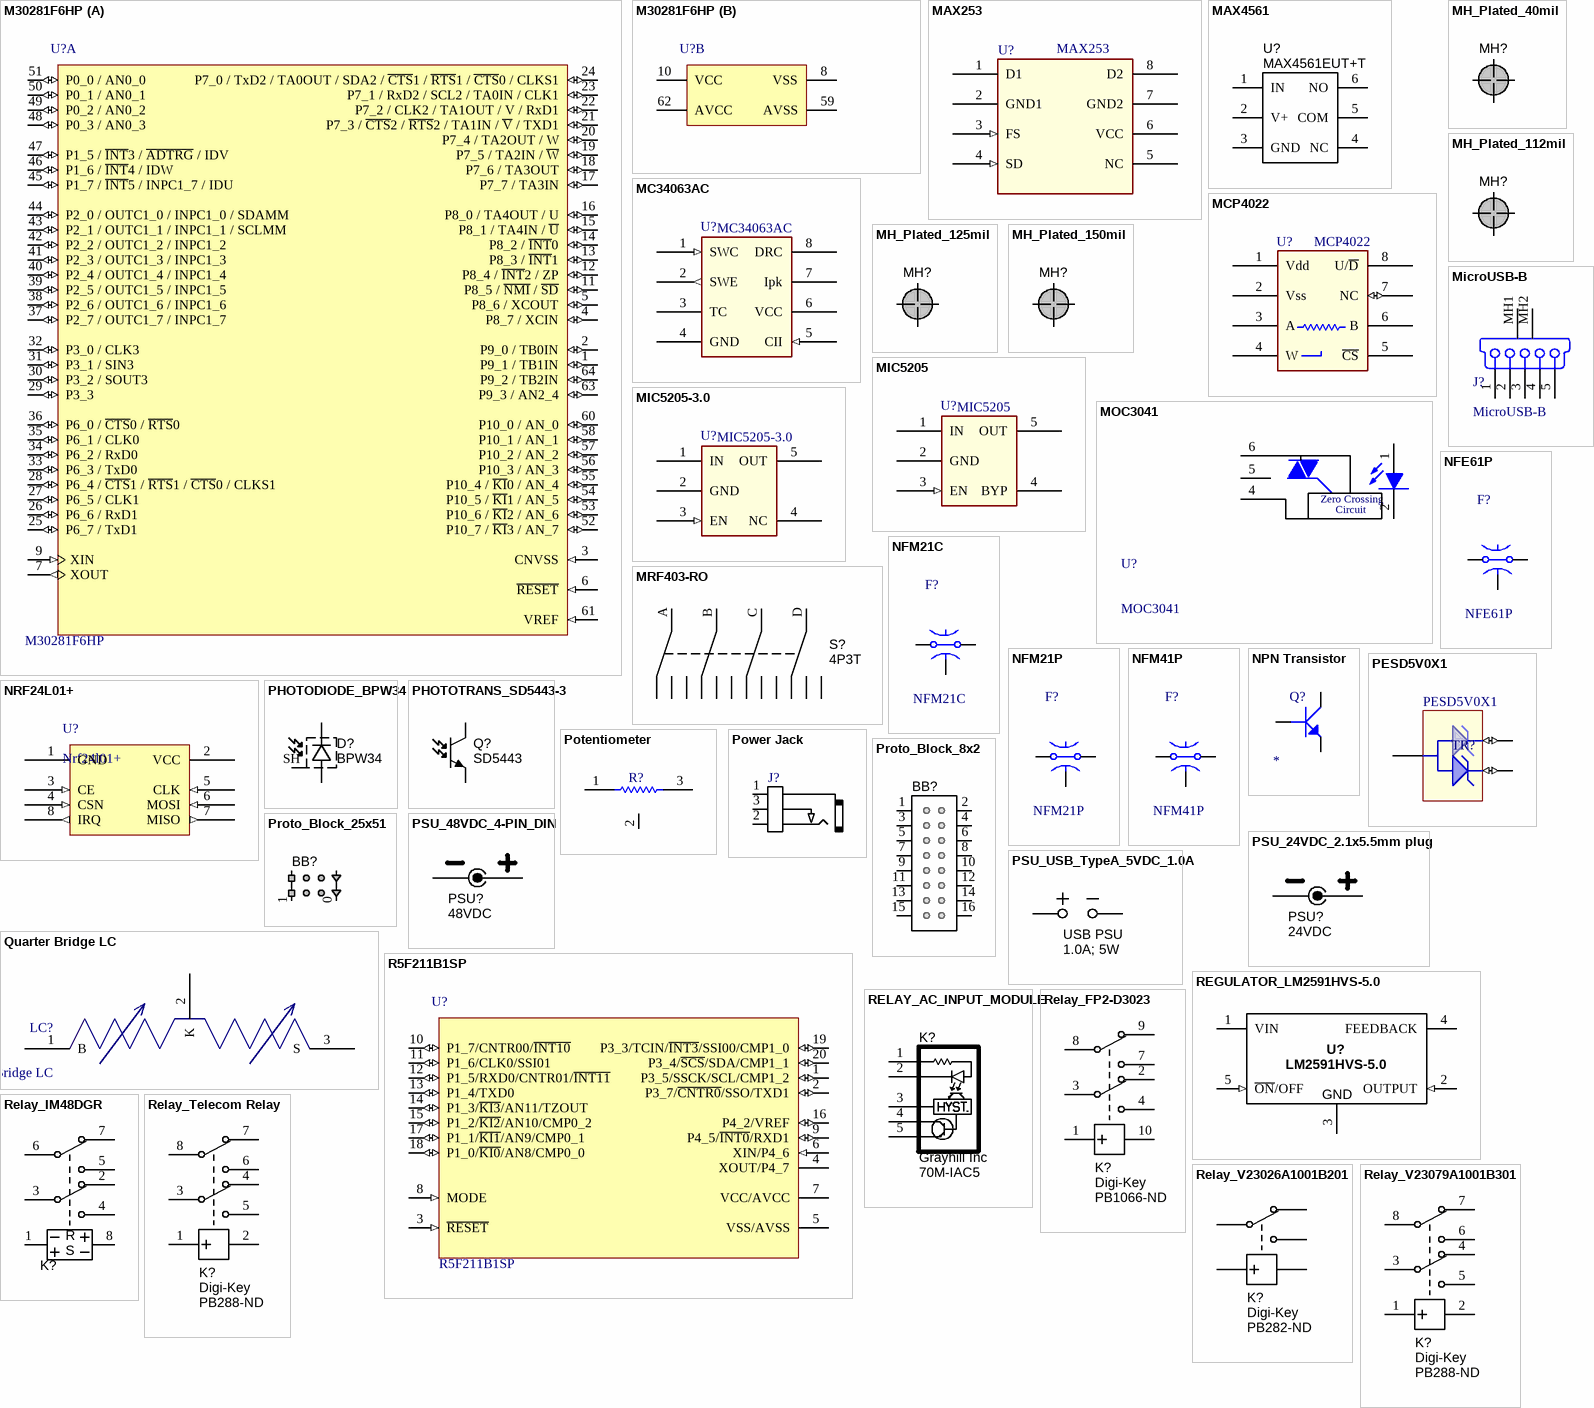
[diagram p6: symbols M30281F6HP to Relay_V23079A1001B301]

## M30281F6HP
designator U?
M16C/Tiny Series, 28 Group MCU, 48K + 4K ROM, 4K RAM, 64P6Q-A Pkg; Producer: Renesas; DatasheetVersion: ver2.00, Jan-2007; PackageReference: LQFP64; PackageDescription: 64-Pin Plastic Low Profile QFP, 10 x 10 x 1.4 mm Body, 0.5 mm Pitch; Code_JEITA: P-LQFP64-10x10-0.50; Code_IPC: SQFP50P1200X1200-64; ComponentLink1Description: Manufacturer Link; ComponentLink1URL: http://sg.renesas.com/fmwk.jsp?cnt=m16c_family_landing.jsp&fp=/products/mpumcu/m16c_family/; ComponentLink2Description: Datasheet; ComponentLink2URL: http://documentation.renesas.com/eng/products/mpumcu/rej09b0047_16c28hm.pdf; ComponentLink2Description: SMD; Value: M30281F6HP
footprint LQFP64 (LQFP, 64-Leads, Body 12,2x12,2mm (max), Pitch 0,50mm, IPC Low Density)
part A pins: 1 P9_1 / TB1IN (io), 2 P9_0 / TB0IN (io), 3 CNVSS (in), 4 P8_7 / XCIN (io), 5 P8_6 / XCOUT (io), 6 ~{RESET} (in), 7 XOUT (out), 9 XIN (in), 11 P8_5 / ~{NMI} / ~{SD} (io), 12 P8_4 / ~{INT}2 / ZP (io), 13 P8_3 / ~{INT}1 (io), 14 P8_2 / ~{INT}0 (io), 15 P8_1 / TA4IN / ~{U} (io), 16 P8_0 / TA4OUT / U (io), 17 P7_7 / TA3IN (io), 18 P7_6 / TA3OUT (io), 19 P7_5 / TA2IN / ~{W} (io), 20 P7_4 / TA2OUT / W (io), 21 P7_3 / ~{CTS}2 / ~{RTS}2 / TA1IN / ~{V} / TXD1 (io), 22 P7_2 / CLK2 / TA1OUT / V / RxD1 (io), 23 P7_1 / RxD2 / SCL2 / TA0IN / CLK1 (io), 24 P7_0 / TxD2 / TA0OUT / SDA2 / ~{CTS}1 / ~{RTS}1 / ~{CTS}0 / CLKS1 (io), 25 P6_7 / TxD1 (io), 26 P6_6 / RxD1 (io), 27 P6_5 / CLK1 (io), 28 P6_4 / ~{CTS}1 / ~{RTS}1 / ~{CTS}0 / CLKS1 (io), 29 P3_3 (io), 30 P3_2 / SOUT3 (io), 31 P3_1 / SIN3 (io), 32 P3_0 / CLK3 (io), 33 P6_3 / TxD0 (io), 34 P6_2 / RxD0 (io), 35 P6_1 / CLK0 (io), 36 P6_0 / ~{CTS}0 / ~{RTS}0 (io), 37 P2_7 / OUTC1_7 / INPC1_7 (io), 38 P2_6 / OUTC1_6 / INPC1_6 (io), 39 P2_5 / OUTC1_5 / INPC1_5 (io), 40 P2_4 / OUTC1_4 / INPC1_4 (io), 41 P2_3 / OUTC1_3 / INPC1_3 (io), 42 P2_2 / OUTC1_2 / INPC1_2 (io), 43 P2_1 / OUTC1_1 / INPC1_1 / SCLMM (io), 44 P2_0 / OUTC1_0 / INPC1_0 / SDAMM (io), 45 P1_7 / ~{INT}5 / INPC1_7 / IDU (io), 46 P1_6 / ~{INT}4 / IDW (io), 47 P1_5 / ~{INT}3 / ~{ADTRG} / IDV (io), 48 P0_3 / AN0_3 (io), 49 P0_2 / AN0_2 (io), 50 P0_1 / AN0_1 (io), 51 P0_0 / AN0_0 (io), 52 P10_7 / ~{KI}3 / AN_7 (io), 53 P10_6 / ~{KI}2 / AN_6 (io), 54 P10_5 / ~{KI}1 / AN_5 (io), 55 P10_4 / ~{KI}0 / AN_4 (io), 56 P10_3 / AN_3 (io), 57 P10_2 / AN_2 (io), 58 P10_1 / AN_1 (io), 60 P10_0 / AN_0 (io), 61 VREF (in), 63 P9_3 / AN2_4 (io), 64 P9_2 / TB2IN (io)
part B pins: 8 VSS (power), 10 VCC (power), 59 AVSS (power), 62 AVCC (power)

## MAX253
designator U?
Transformer Driver for Isolated Interfaces; Producer: Maxim; ComponentLink3Description: EICMAX253; ComponentLink2Description: SMD; Value: MAX253
footprint SOIC8 (SOIC, 8-Leads, Body 5,0x4,0mm (max), Pitch 1,27mm, IPC Low Density)
pins: 1 D1 (oc), 2 GND1 (power), 3 FS (in), 4 SD (in), 5 NC, 6 VCC (power), 7 GND2 (power), 8 D2 (oc)

## MAX4561
designator U?  Manufacturer Part Number 1: MAX4561EUT+T
IC SMD Analog Switch SOT23-6; Manufacturer 1: Maxim Integrated Products; Ratings: 10mA 12V Max; Package / Case: SOT-23-6; Supplier 1: Digi-Key; Supplier Part Number 1: MAX4561EUT+TCT-ND
footprint SOT23-6
pins: 1 IN, 2 V+, 3 GND, 4 NC, 5 COM, 6 NO

## MC34063AC
designator U?
DC-DC Reg; Producer: ST; ComponentLink2Description: SMD; Value: MC34063AC
footprint SOIC8 (SOIC, 8-Leads, Body 5,0x4,0mm (max), Pitch 1,27mm, IPC Low Density)
footprint PDIP-8
pins: 1 SWC (in) "Switch Collector", 2 SWE (out) "Switch Emiter", 3 TC "Timing Capacitor", 4 GND (power), 5 CII (in) "Comparator Inveting Input", 6 VCC (power), 7 Ipk "Ipk sense", 8 DRC

## MCP4022
designator U?
Microchip Digital Potentiometer; ComponentLink2Description: SMD; Value: MCP4022
footprint SOIC8 (SOIC, 8-Leads, Body 5,0x4,0mm (max), Pitch 1,27mm, IPC Low Density)
pins: 1 Vdd (power), 2 Vss (power), 3 A, 4 W, 5 ~{CS} (power), 6 B, 7 NC (io), 8 U/~{D} (power)

## MH_Plated_40mil
designator MH?  (value not drawn)  (no BOM)
footprint MH_PLATED_40mil ID x 100mil OD (Plated Mounting hole, general purpose)
pins: MH

## MH_Plated_112mil
designator MH?  (value not drawn)  (no BOM)
footprint MH_PLATED_112 ID x 260mil OD (Plated Mounting hole, accepts 4-xx machine screw)
pins: MH

## MH_Plated_125mil
designator MH?  (value not drawn)  (no BOM)
Rule: UNIONINDEX{}0[]SOLDERMASKEXPANSIONMODE{}None[]PASTEMASKEXPANSIONMODE{}None[]RULEKIND{}PlaneConnect[]NETSCOPE{}AnyNet[]LAYERKIND{}SameLayer[]NAME{}Schematic Power Plane Connect Style[]PLANECONNECTSTYLE{}Direct[]RELIEFEXPANSION{}15mil[]RELIEFENTRIES{}2[]RELIEFCONDUCTORWIDTH{}12mil[]RELIEFAIRGAP{}10mil[]UNIT{}Imperial[]PcbType{}ProtelPcb
footprint MH_PLATED_125 ID x 260mil OD (Plated Mounting Hole)
pins: MH

## MH_Plated_150mil
designator MH?  (value not drawn)  (no BOM)
footprint MH_PLATED_150ID x 220mil OD (Plated Mounting Hole, Accepts 4-xx machine screw)
pins: MH

## MIC5205
designator U?
5V LDO; Producer: Micrel; ComponentLink2Description: SMD; Value: MIC5205
footprint SOT23-5 (SOT23, 5-Leads, Body 3,0x3,0mm (max), Pitch 0,95mm, IPC Low Density)
pins: 1 IN (power), 2 GND (power), 3 EN (in), 4 BYP, 5 OUT (power)

## MIC5205-3.0
designator U?
3V LDO; Producer: Micrel; ComponentLink2Description: SMD; Value: MIC5205-3.0
footprint SOT23-5 (SOT23, 5-Leads, Body 3,0x3,0mm (max), Pitch 0,95mm, IPC Low Density)
pins: 1 IN (power), 2 GND (power), 3 EN (in), 4 NC, 5 OUT (power)

## MicroUSB-B
designator J?
Molex MicroUSB-B; Value: MicroUSB-B; ComponentLink2Description: AX; ComponentLink3Description: *
footprint MicroUSB-B (Molex MicroUSB-B Footprint)
pins: 1 V BUS (5V) "USB Vcc [Red]", 2 D- "USB Data - [White]", 3 D+ "USB Data + [Green]", 4 NC "Not Connected (or joined to pin 5 via resistor)", 5 GND "Ground [Black]", MH1, MH2

## MOC3041
designator U?
Triac Diver; ComponentLink2Description: AX; Value: MOC3041
footprint DIP-6
pins: 1 A, 2 K, 4 Main Term, 5 No, 6 Main Term
text: Zero Crossing; Circuit

## MRF403-RO
designator S?, comment 4P3T
SW ROTARY 4P 2-3POS PC; Manufacturer 1 1: NKK Switches; Manufacturer Part Number 1 1: MRF403-RO; Number of Positions: 2 ~ 3; Number of Decks: 1; Number of Poles per Deck: 4; Contact Rating @ Voltage: 0.4VA @ 28VAC/DC; Actuator Type: Flush (Slotted); Angle of Throw: 30°; Supplier 1: Digi-Key; Supplier Part Number 1: MRF403-RO-ND; RoHS: RoHS Compliant; Description 1: SW ROTARY 4P 2-3POS PC; Category: Switches; Stock 1: 7; Pricing 1: 1=11.45, 25=8.1176, 100=7.47, 250=6.972, 500=6.8475, 1000=6.5985, 2500=6.225, 5000=6.1005 (USD); Circuit per Deck: 4P3T; Mounting Type: PCB, Through Hole; Termination Style: PC Pin; Orientation: Vertical; ComponentLink1URL: http://www.nkkswitches.com/pdf/MRlogicLevel.pdf; ComponentLink1Description: http://www.nkkswitches.com/pdf/MRlogicLevel.pdf; Manufacturer 1: NKK Switches; Manufacturer Part Number 1: MRF403-RO
footprint SW_MRF403
pins: 1A, 1B 1, 1C, 1D, 2A, 2B, 2C, 2D, 3A, 3B, 3C, 3D, A, B, C, D

## NFE61P
designator F?
NFE EMI; Producer: Murata; ComponentLink2Description: SMD; Value: NFE61P
footprint F.2606_3 (Ferrite Bead, Body 6.8x1.6mm, 3 pin, IPC High Density)
pins: 1, 2, 3

## NFM21C
designator F?
NFM EMI; Producer: Murata; ComponentLink2Description: SMD; Value: NFM21C
footprint F.0805_3 (Chip Capacitor, Body 2.0x1.3mm, IPC High Density)
pins: 1, 2, 3

## NFM21P
designator F?
NFM EMI; Producer: Murata; ComponentLink2Description: SMD; Value: NFM21P
footprint F.0805_3 (Chip Capacitor, Body 2.0x1.3mm, IPC High Density)
pins: 1, 2, 3

## NFM41P
designator F?
NFM EMI; Producer: Murata; ComponentLink2Description: SMD; Value: NFM41P
footprint F.1806_3 (Ferrite Bead, Body 4.5x1.6mm, 3 pin, IPC High Density)
pins: 1, 2, 3

## NPN Transistor
designator Q?
Npn Transistor; Birim Fiyat: * USD; Depo Kodu: *; Paket: *; Satın Alma Linki: *; Satıcı: *; Value: *
footprint sot23-3 (SOT23, 3 pin)
pins: 1 E, 2 B, 3 C

## NRF24L01+
designator U?, comment Nrf24l01+
Nrf24l01+ Wireless module; Producer: Nordic; Value: Nrf24l01+
footprint NRF24L01+
pins: 1 GND (power), 2 VCC (power), 3 CE (in), 4 CSN (in), 5 CLK (in), 6 MOSI (in), 7 MISO (out), 8 IRQ (out)

## PESD5V0X1
designator TR?
TVS Array; Producer: NXP; ComponentLink2Description: SMD; Value: PESD5V0X1
footprint SOT23-3 (SOT23, 3-Leads, Body 3,0x2,5mm (max), Pitch 0,95mm, IPC Low Density)
pins: 1 (io), 2 (io), 3 (power)